# Altium integrated library Lattice CPLD ispMACH.IntLib: 663 symbols (part 35 of 48)
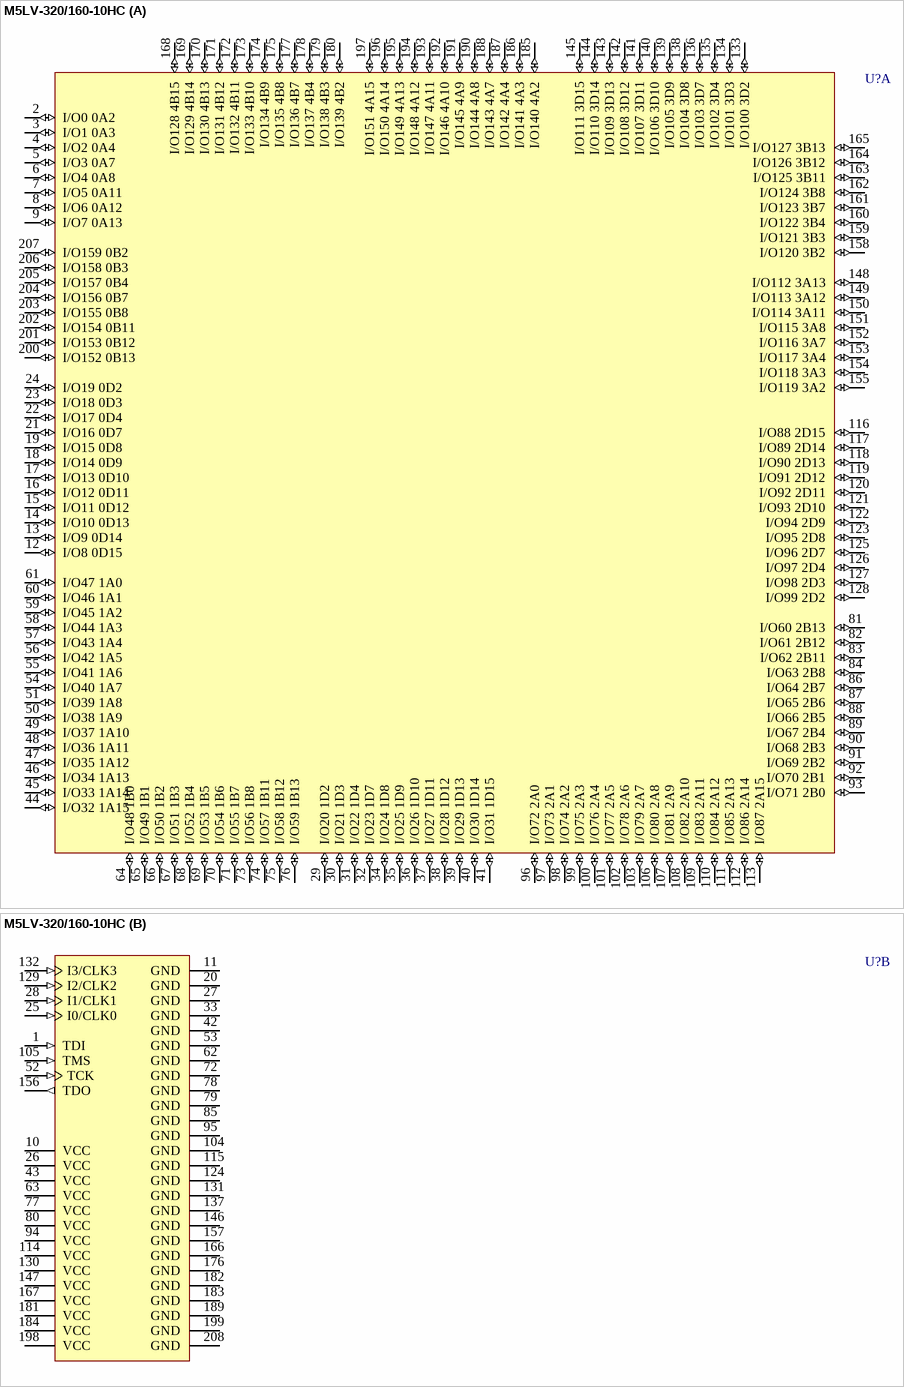
[diagram p340: symbol M5LV-320/160-10HC]

## M5LV-320/160-10HC
designator U?
High-Density and High-I/O Complex PLD; Published: 23-Sep-2002; LatestRevisionDate: 13-Apr-2006; LatestRevisionNote: IPC-7351 Footprint Added.; DatasheetVersion: Sep-2000; PackageVersion: Sep-2000; PackageReference: MQFP208; Publisher: Altium Limited; PackageDescription: 208-Pin Shrink Quad Flat Pack 0.5 mm Pitch; ComponentLink1Description: Manufacturer Link; ComponentLink1URL: http://www.latticesemi.com/products/mature/index.cfm; ComponentLink2Description: Datasheet; ComponentLink2URL: http://www.latticesemi.com/lit/docs/datasheets/cpld/mach5.pdf
footprint MQFP208_N (Shrink QFP, 208-Leads, Body 27.7x27.7mm, Pitch 0.5mm, IPC Medium Density)
footprint MQFP208_L (Shrink QFP, 208-Leads, Body 27.7x27.7mm, Pitch 0.5mm, IPC High Density)
footprint MQFP208_M (Shrink QFP, 208-Leads, Body 27.7x27.7mm, Pitch 0.5mm, IPC Low Density)
3D model M5LV-MQFP208 (208-Pin Shrink Quad Flat Pack 0.5 mm Pitch)
part A pins: 2 I/O0 0A2 (io), 3 I/O1 0A3 (io), 4 I/O2 0A4 (io), 5 I/O3 0A7 (io), 6 I/O4 0A8 (io), 7 I/O5 0A11 (io), 8 I/O6 0A12 (io), 9 I/O7 0A13 (io), 12 I/O8 0D15 (io), 13 I/O9 0D14 (io), 14 I/O10 0D13 (io), 15 I/O11 0D12 (io), 16 I/O12 0D11 (io), 17 I/O13 0D10 (io), 18 I/O14 0D9 (io), 19 I/O15 0D8 (io), 21 I/O16 0D7 (io), 22 I/O17 0D4 (io), 23 I/O18 0D3 (io), 24 I/O19 0D2 (io), 29 I/O20 1D2 (io), 30 I/O21 1D3 (io), 31 I/O22 1D4 (io), 32 I/O23 1D7 (io), 34 I/O24 1D8 (io), 35 I/O25 1D9 (io), 36 I/O26 1D10 (io), 37 I/O27 1D11 (io), 38 I/O28 1D12 (io), 39 I/O29 1D13 (io), 40 I/O30 1D14 (io), 41 I/O31 1D15 (io), 44 I/O32 1A15 (io), 45 I/O33 1A14 (io), 46 I/O34 1A13 (io), 47 I/O35 1A12 (io), 48 I/O36 1A11 (io), 49 I/O37 1A10 (io), 50 I/O38 1A9 (io), 51 I/O39 1A8 (io), 54 I/O40 1A7 (io), 55 I/O41 1A6 (io), 56 I/O42 1A5 (io), 57 I/O43 1A4 (io), 58 I/O44 1A3 (io), 59 I/O45 1A2 (io), 60 I/O46 1A1 (io), 61 I/O47 1A0 (io), 64 I/O48 1B0 (io), 65 I/O49 1B1 (io), 66 I/O50 1B2 (io), 67 I/O51 1B3 (io), 68 I/O52 1B4 (io), 69 I/O53 1B5 (io), 70 I/O54 1B6 (io), 71 I/O55 1B7 (io), 73 I/O56 1B8 (io), 74 I/O57 1B11 (io), 75 I/O58 1B12 (io), 76 I/O59 1B13 (io), 81 I/O60 2B13 (io), 82 I/O61 2B12 (io), 83 I/O62 2B11 (io), 84 I/O63 2B8 (io), 86 I/O64 2B7 (io), 87 I/O65 2B6 (io), 88 I/O66 2B5 (io), 89 I/O67 2B4 (io), 90 I/O68 2B3 (io), 91 I/O69 2B2 (io), 92 I/O70 2B1 (io), 93 I/O71 2B0 (io), 96 I/O72 2A0 (io), 97 I/O73 2A1 (io), 98 I/O74 2A2 (io), 99 I/O75 2A3 (io), 100 I/O76 2A4 (io), 101 I/O77 2A5 (io), 102 I/O78 2A6 (io), 103 I/O79 2A7 (io), 106 I/O80 2A8 (io), 107 I/O81 2A9 (io), 108 I/O82 2A10 (io), 109 I/O83 2A11 (io), 110 I/O84 2A12 (io), 111 I/O85 2A13 (io), 112 I/O86 2A14 (io), 113 I/O87 2A15 (io), 116 I/O88 2D15 (io), 117 I/O89 2D14 (io), 118 I/O90 2D13 (io), 119 I/O91 2D12 (io), 120 I/O92 2D11 (io), 121 I/O93 2D10 (io), 122 I/O94 2D9 (io), 123 I/O95 2D8 (io), 125 I/O96 2D7 (io), 126 I/O97 2D4 (io), 127 I/O98 2D3 (io), 128 I/O99 2D2 (io), 133 I/O100 3D2 (io), 134 I/O101 3D3 (io), 135 I/O102 3D4 (io), 136 I/O103 3D7 (io), 138 I/O104 3D8 (io), 139 I/O105 3D9 (io), 140 I/O106 3D10 (io), 141 I/O107 3D11 (io), 142 I/O108 3D12 (io), 143 I/O109 3D13 (io), 144 I/O110 3D14 (io), 145 I/O111 3D15 (io), 148 I/O112 3A13 (io), 149 I/O113 3A12 (io), 150 I/O114 3A11 (io), 151 I/O115 3A8 (io), 152 I/O116 3A7 (io), 153 I/O117 3A4 (io), 154 I/O118 3A3 (io), 155 I/O119 3A2 (io), 158 I/O120 3B2 (io), 159 I/O121 3B3 (io), 160 I/O122 3B4 (io), 161 I/O123 3B7 (io), 162 I/O124 3B8 (io), 163 I/O125 3B11 (io), 164 I/O126 3B12 (io), 165 I/O127 3B13 (io), 168 I/O128 4B15 (io), 169 I/O129 4B14 (io), 170 I/O130 4B13 (io), 171 I/O131 4B12 (io), 172 I/O132 4B11 (io), 173 I/O133 4B10 (io), 174 I/O134 4B9 (io), 175 I/O135 4B8 (io), 177 I/O136 4B7 (io), 178 I/O137 4B4 (io), 179 I/O138 4B3 (io), 180 I/O139 4B2 (io), 185 I/O140 4A2 (io), 186 I/O141 4A3 (io), 187 I/O142 4A4 (io), 188 I/O143 4A7 (io), 190 I/O144 4A8 (io), 191 I/O145 4A9 (io), 192 I/O146 4A10 (io), 193 I/O147 4A11 (io), 194 I/O148 4A12 (io), 195 I/O149 4A13 (io), 196 I/O150 4A14 (io), 197 I/O151 4A15 (io), 200 I/O152 0B13 (io), 201 I/O153 0B12 (io), 202 I/O154 0B11 (io), 203 I/O155 0B8 (io), 204 I/O156 0B7 (io), 205 I/O157 0B4 (io), 206 I/O158 0B3 (io), 207 I/O159 0B2 (io)
part B pins: 1 TDI (in), 10 VCC (power), 11 GND (power), 20 GND (power), 25 I0/CLK0 (in), 26 VCC (power), 27 GND (power), 28 I1/CLK1 (in), 33 GND (power), 42 GND (power), 43 VCC (power), 52 TCK (in), 53 GND (power), 62 GND (power), 63 VCC (power), 72 GND (power), 77 VCC (power), 78 GND (power), 79 GND (power), 80 VCC (power), 85 GND (power), 94 VCC (power), 95 GND (power), 104 GND (power), 105 TMS (in), 114 VCC (power), 115 GND (power), 124 GND (power), 129 I2/CLK2 (in), 130 VCC (power), 131 GND (power), 132 I3/CLK3 (in), 137 GND (power), 146 GND (power), 147 VCC (power), 156 TDO (out), 157 GND (power), 166 GND (power), 167 VCC (power), 176 GND (power), 181 VCC (power), 182 GND (power), 183 GND (power), 184 VCC (power), 189 GND (power), 198 VCC (power), 199 GND (power), 208 GND (power)

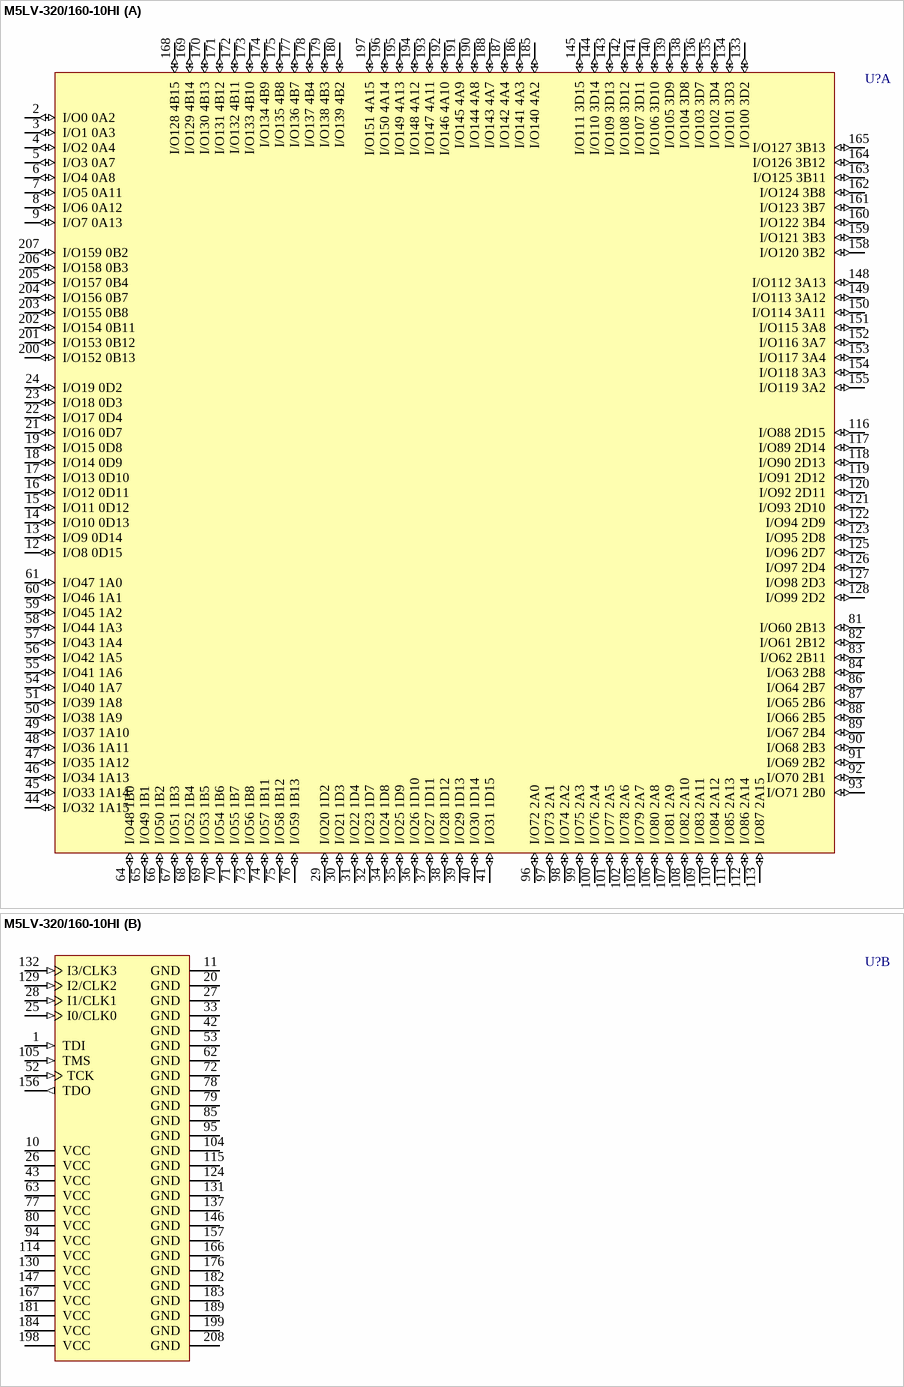
[diagram p207: symbol M5LV-320/160-10HI]

## M5LV-320/160-10HI
designator U?
High-Density and High-I/O Complex PLD; Published: 23-Sep-2002; LatestRevisionDate: 13-Apr-2006; LatestRevisionNote: IPC-7351 Footprint Added.; DatasheetVersion: Sep-2000; PackageVersion: Sep-2000; PackageReference: MQFP208; Publisher: Altium Limited; PackageDescription: 208-Pin Shrink Quad Flat Pack 0.5 mm Pitch; ComponentLink1Description: Manufacturer Link; ComponentLink1URL: http://www.latticesemi.com/products/mature/index.cfm; ComponentLink2Description: Datasheet; ComponentLink2URL: http://www.latticesemi.com/lit/docs/datasheets/cpld/mach5.pdf
footprint MQFP208_N (Shrink QFP, 208-Leads, Body 27.7x27.7mm, Pitch 0.5mm, IPC Medium Density)
footprint MQFP208_L (Shrink QFP, 208-Leads, Body 27.7x27.7mm, Pitch 0.5mm, IPC High Density)
footprint MQFP208_M (Shrink QFP, 208-Leads, Body 27.7x27.7mm, Pitch 0.5mm, IPC Low Density)
3D model M5LV-MQFP208 (208-Pin Shrink Quad Flat Pack 0.5 mm Pitch)
part A pins: 2 I/O0 0A2 (io), 3 I/O1 0A3 (io), 4 I/O2 0A4 (io), 5 I/O3 0A7 (io), 6 I/O4 0A8 (io), 7 I/O5 0A11 (io), 8 I/O6 0A12 (io), 9 I/O7 0A13 (io), 12 I/O8 0D15 (io), 13 I/O9 0D14 (io), 14 I/O10 0D13 (io), 15 I/O11 0D12 (io), 16 I/O12 0D11 (io), 17 I/O13 0D10 (io), 18 I/O14 0D9 (io), 19 I/O15 0D8 (io), 21 I/O16 0D7 (io), 22 I/O17 0D4 (io), 23 I/O18 0D3 (io), 24 I/O19 0D2 (io), 29 I/O20 1D2 (io), 30 I/O21 1D3 (io), 31 I/O22 1D4 (io), 32 I/O23 1D7 (io), 34 I/O24 1D8 (io), 35 I/O25 1D9 (io), 36 I/O26 1D10 (io), 37 I/O27 1D11 (io), 38 I/O28 1D12 (io), 39 I/O29 1D13 (io), 40 I/O30 1D14 (io), 41 I/O31 1D15 (io), 44 I/O32 1A15 (io), 45 I/O33 1A14 (io), 46 I/O34 1A13 (io), 47 I/O35 1A12 (io), 48 I/O36 1A11 (io), 49 I/O37 1A10 (io), 50 I/O38 1A9 (io), 51 I/O39 1A8 (io), 54 I/O40 1A7 (io), 55 I/O41 1A6 (io), 56 I/O42 1A5 (io), 57 I/O43 1A4 (io), 58 I/O44 1A3 (io), 59 I/O45 1A2 (io), 60 I/O46 1A1 (io), 61 I/O47 1A0 (io), 64 I/O48 1B0 (io), 65 I/O49 1B1 (io), 66 I/O50 1B2 (io), 67 I/O51 1B3 (io), 68 I/O52 1B4 (io), 69 I/O53 1B5 (io), 70 I/O54 1B6 (io), 71 I/O55 1B7 (io), 73 I/O56 1B8 (io), 74 I/O57 1B11 (io), 75 I/O58 1B12 (io), 76 I/O59 1B13 (io), 81 I/O60 2B13 (io), 82 I/O61 2B12 (io), 83 I/O62 2B11 (io), 84 I/O63 2B8 (io), 86 I/O64 2B7 (io), 87 I/O65 2B6 (io), 88 I/O66 2B5 (io), 89 I/O67 2B4 (io), 90 I/O68 2B3 (io), 91 I/O69 2B2 (io), 92 I/O70 2B1 (io), 93 I/O71 2B0 (io), 96 I/O72 2A0 (io), 97 I/O73 2A1 (io), 98 I/O74 2A2 (io), 99 I/O75 2A3 (io), 100 I/O76 2A4 (io), 101 I/O77 2A5 (io), 102 I/O78 2A6 (io), 103 I/O79 2A7 (io), 106 I/O80 2A8 (io), 107 I/O81 2A9 (io), 108 I/O82 2A10 (io), 109 I/O83 2A11 (io), 110 I/O84 2A12 (io), 111 I/O85 2A13 (io), 112 I/O86 2A14 (io), 113 I/O87 2A15 (io), 116 I/O88 2D15 (io), 117 I/O89 2D14 (io), 118 I/O90 2D13 (io), 119 I/O91 2D12 (io), 120 I/O92 2D11 (io), 121 I/O93 2D10 (io), 122 I/O94 2D9 (io), 123 I/O95 2D8 (io), 125 I/O96 2D7 (io), 126 I/O97 2D4 (io), 127 I/O98 2D3 (io), 128 I/O99 2D2 (io), 133 I/O100 3D2 (io), 134 I/O101 3D3 (io), 135 I/O102 3D4 (io), 136 I/O103 3D7 (io), 138 I/O104 3D8 (io), 139 I/O105 3D9 (io), 140 I/O106 3D10 (io), 141 I/O107 3D11 (io), 142 I/O108 3D12 (io), 143 I/O109 3D13 (io), 144 I/O110 3D14 (io), 145 I/O111 3D15 (io), 148 I/O112 3A13 (io), 149 I/O113 3A12 (io), 150 I/O114 3A11 (io), 151 I/O115 3A8 (io), 152 I/O116 3A7 (io), 153 I/O117 3A4 (io), 154 I/O118 3A3 (io), 155 I/O119 3A2 (io), 158 I/O120 3B2 (io), 159 I/O121 3B3 (io), 160 I/O122 3B4 (io), 161 I/O123 3B7 (io), 162 I/O124 3B8 (io), 163 I/O125 3B11 (io), 164 I/O126 3B12 (io), 165 I/O127 3B13 (io), 168 I/O128 4B15 (io), 169 I/O129 4B14 (io), 170 I/O130 4B13 (io), 171 I/O131 4B12 (io), 172 I/O132 4B11 (io), 173 I/O133 4B10 (io), 174 I/O134 4B9 (io), 175 I/O135 4B8 (io), 177 I/O136 4B7 (io), 178 I/O137 4B4 (io), 179 I/O138 4B3 (io), 180 I/O139 4B2 (io), 185 I/O140 4A2 (io), 186 I/O141 4A3 (io), 187 I/O142 4A4 (io), 188 I/O143 4A7 (io), 190 I/O144 4A8 (io), 191 I/O145 4A9 (io), 192 I/O146 4A10 (io), 193 I/O147 4A11 (io), 194 I/O148 4A12 (io), 195 I/O149 4A13 (io), 196 I/O150 4A14 (io), 197 I/O151 4A15 (io), 200 I/O152 0B13 (io), 201 I/O153 0B12 (io), 202 I/O154 0B11 (io), 203 I/O155 0B8 (io), 204 I/O156 0B7 (io), 205 I/O157 0B4 (io), 206 I/O158 0B3 (io), 207 I/O159 0B2 (io)
part B pins: 1 TDI (in), 10 VCC (power), 11 GND (power), 20 GND (power), 25 I0/CLK0 (in), 26 VCC (power), 27 GND (power), 28 I1/CLK1 (in), 33 GND (power), 42 GND (power), 43 VCC (power), 52 TCK (in), 53 GND (power), 62 GND (power), 63 VCC (power), 72 GND (power), 77 VCC (power), 78 GND (power), 79 GND (power), 80 VCC (power), 85 GND (power), 94 VCC (power), 95 GND (power), 104 GND (power), 105 TMS (in), 114 VCC (power), 115 GND (power), 124 GND (power), 129 I2/CLK2 (in), 130 VCC (power), 131 GND (power), 132 I3/CLK3 (in), 137 GND (power), 146 GND (power), 147 VCC (power), 156 TDO (out), 157 GND (power), 166 GND (power), 167 VCC (power), 176 GND (power), 181 VCC (power), 182 GND (power), 183 GND (power), 184 VCC (power), 189 GND (power), 198 VCC (power), 199 GND (power), 208 GND (power)

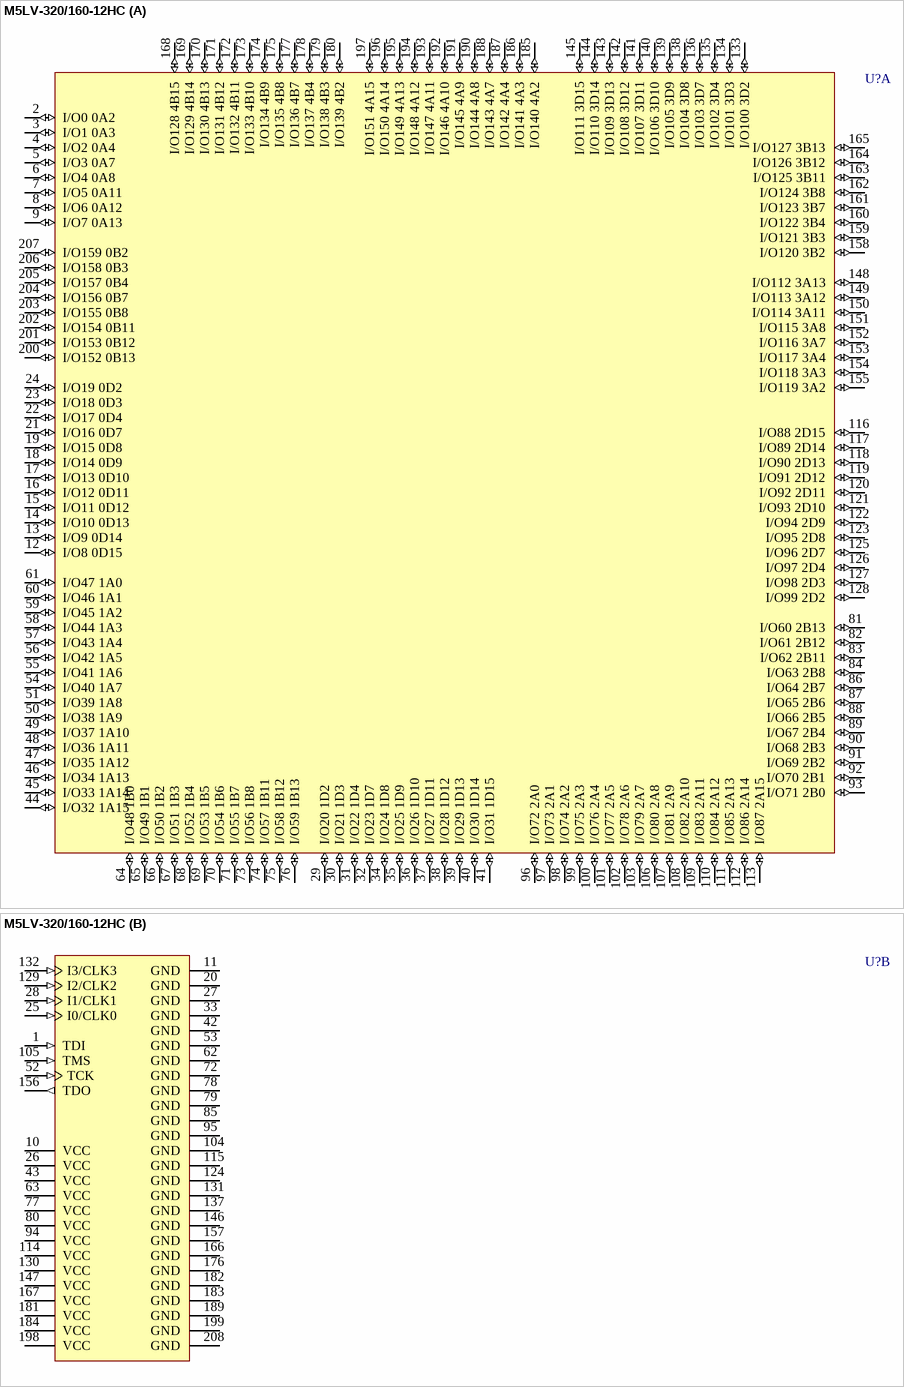
[diagram p208: symbol M5LV-320/160-12HC]

## M5LV-320/160-12HC
designator U?
High-Density and High-I/O Complex PLD; Published: 23-Sep-2002; LatestRevisionDate: 13-Apr-2006; LatestRevisionNote: IPC-7351 Footprint Added.; DatasheetVersion: Sep-2000; PackageVersion: Sep-2000; PackageReference: MQFP208; Publisher: Altium Limited; PackageDescription: 208-Pin Shrink Quad Flat Pack 0.5 mm Pitch; ComponentLink1Description: Manufacturer Link; ComponentLink1URL: http://www.latticesemi.com/products/mature/index.cfm; ComponentLink2Description: Datasheet; ComponentLink2URL: http://www.latticesemi.com/lit/docs/datasheets/cpld/mach5.pdf
footprint MQFP208_N (Shrink QFP, 208-Leads, Body 27.7x27.7mm, Pitch 0.5mm, IPC Medium Density)
footprint MQFP208_L (Shrink QFP, 208-Leads, Body 27.7x27.7mm, Pitch 0.5mm, IPC High Density)
footprint MQFP208_M (Shrink QFP, 208-Leads, Body 27.7x27.7mm, Pitch 0.5mm, IPC Low Density)
3D model M5LV-MQFP208 (208-Pin Shrink Quad Flat Pack 0.5 mm Pitch)
part A pins: 2 I/O0 0A2 (io), 3 I/O1 0A3 (io), 4 I/O2 0A4 (io), 5 I/O3 0A7 (io), 6 I/O4 0A8 (io), 7 I/O5 0A11 (io), 8 I/O6 0A12 (io), 9 I/O7 0A13 (io), 12 I/O8 0D15 (io), 13 I/O9 0D14 (io), 14 I/O10 0D13 (io), 15 I/O11 0D12 (io), 16 I/O12 0D11 (io), 17 I/O13 0D10 (io), 18 I/O14 0D9 (io), 19 I/O15 0D8 (io), 21 I/O16 0D7 (io), 22 I/O17 0D4 (io), 23 I/O18 0D3 (io), 24 I/O19 0D2 (io), 29 I/O20 1D2 (io), 30 I/O21 1D3 (io), 31 I/O22 1D4 (io), 32 I/O23 1D7 (io), 34 I/O24 1D8 (io), 35 I/O25 1D9 (io), 36 I/O26 1D10 (io), 37 I/O27 1D11 (io), 38 I/O28 1D12 (io), 39 I/O29 1D13 (io), 40 I/O30 1D14 (io), 41 I/O31 1D15 (io), 44 I/O32 1A15 (io), 45 I/O33 1A14 (io), 46 I/O34 1A13 (io), 47 I/O35 1A12 (io), 48 I/O36 1A11 (io), 49 I/O37 1A10 (io), 50 I/O38 1A9 (io), 51 I/O39 1A8 (io), 54 I/O40 1A7 (io), 55 I/O41 1A6 (io), 56 I/O42 1A5 (io), 57 I/O43 1A4 (io), 58 I/O44 1A3 (io), 59 I/O45 1A2 (io), 60 I/O46 1A1 (io), 61 I/O47 1A0 (io), 64 I/O48 1B0 (io), 65 I/O49 1B1 (io), 66 I/O50 1B2 (io), 67 I/O51 1B3 (io), 68 I/O52 1B4 (io), 69 I/O53 1B5 (io), 70 I/O54 1B6 (io), 71 I/O55 1B7 (io), 73 I/O56 1B8 (io), 74 I/O57 1B11 (io), 75 I/O58 1B12 (io), 76 I/O59 1B13 (io), 81 I/O60 2B13 (io), 82 I/O61 2B12 (io), 83 I/O62 2B11 (io), 84 I/O63 2B8 (io), 86 I/O64 2B7 (io), 87 I/O65 2B6 (io), 88 I/O66 2B5 (io), 89 I/O67 2B4 (io), 90 I/O68 2B3 (io), 91 I/O69 2B2 (io), 92 I/O70 2B1 (io), 93 I/O71 2B0 (io), 96 I/O72 2A0 (io), 97 I/O73 2A1 (io), 98 I/O74 2A2 (io), 99 I/O75 2A3 (io), 100 I/O76 2A4 (io), 101 I/O77 2A5 (io), 102 I/O78 2A6 (io), 103 I/O79 2A7 (io), 106 I/O80 2A8 (io), 107 I/O81 2A9 (io), 108 I/O82 2A10 (io), 109 I/O83 2A11 (io), 110 I/O84 2A12 (io), 111 I/O85 2A13 (io), 112 I/O86 2A14 (io), 113 I/O87 2A15 (io), 116 I/O88 2D15 (io), 117 I/O89 2D14 (io), 118 I/O90 2D13 (io), 119 I/O91 2D12 (io), 120 I/O92 2D11 (io), 121 I/O93 2D10 (io), 122 I/O94 2D9 (io), 123 I/O95 2D8 (io), 125 I/O96 2D7 (io), 126 I/O97 2D4 (io), 127 I/O98 2D3 (io), 128 I/O99 2D2 (io), 133 I/O100 3D2 (io), 134 I/O101 3D3 (io), 135 I/O102 3D4 (io), 136 I/O103 3D7 (io), 138 I/O104 3D8 (io), 139 I/O105 3D9 (io), 140 I/O106 3D10 (io), 141 I/O107 3D11 (io), 142 I/O108 3D12 (io), 143 I/O109 3D13 (io), 144 I/O110 3D14 (io), 145 I/O111 3D15 (io), 148 I/O112 3A13 (io), 149 I/O113 3A12 (io), 150 I/O114 3A11 (io), 151 I/O115 3A8 (io), 152 I/O116 3A7 (io), 153 I/O117 3A4 (io), 154 I/O118 3A3 (io), 155 I/O119 3A2 (io), 158 I/O120 3B2 (io), 159 I/O121 3B3 (io), 160 I/O122 3B4 (io), 161 I/O123 3B7 (io), 162 I/O124 3B8 (io), 163 I/O125 3B11 (io), 164 I/O126 3B12 (io), 165 I/O127 3B13 (io), 168 I/O128 4B15 (io), 169 I/O129 4B14 (io), 170 I/O130 4B13 (io), 171 I/O131 4B12 (io), 172 I/O132 4B11 (io), 173 I/O133 4B10 (io), 174 I/O134 4B9 (io), 175 I/O135 4B8 (io), 177 I/O136 4B7 (io), 178 I/O137 4B4 (io), 179 I/O138 4B3 (io), 180 I/O139 4B2 (io), 185 I/O140 4A2 (io), 186 I/O141 4A3 (io), 187 I/O142 4A4 (io), 188 I/O143 4A7 (io), 190 I/O144 4A8 (io), 191 I/O145 4A9 (io), 192 I/O146 4A10 (io), 193 I/O147 4A11 (io), 194 I/O148 4A12 (io), 195 I/O149 4A13 (io), 196 I/O150 4A14 (io), 197 I/O151 4A15 (io), 200 I/O152 0B13 (io), 201 I/O153 0B12 (io), 202 I/O154 0B11 (io), 203 I/O155 0B8 (io), 204 I/O156 0B7 (io), 205 I/O157 0B4 (io), 206 I/O158 0B3 (io), 207 I/O159 0B2 (io)
part B pins: 1 TDI (in), 10 VCC (power), 11 GND (power), 20 GND (power), 25 I0/CLK0 (in), 26 VCC (power), 27 GND (power), 28 I1/CLK1 (in), 33 GND (power), 42 GND (power), 43 VCC (power), 52 TCK (in), 53 GND (power), 62 GND (power), 63 VCC (power), 72 GND (power), 77 VCC (power), 78 GND (power), 79 GND (power), 80 VCC (power), 85 GND (power), 94 VCC (power), 95 GND (power), 104 GND (power), 105 TMS (in), 114 VCC (power), 115 GND (power), 124 GND (power), 129 I2/CLK2 (in), 130 VCC (power), 131 GND (power), 132 I3/CLK3 (in), 137 GND (power), 146 GND (power), 147 VCC (power), 156 TDO (out), 157 GND (power), 166 GND (power), 167 VCC (power), 176 GND (power), 181 VCC (power), 182 GND (power), 183 GND (power), 184 VCC (power), 189 GND (power), 198 VCC (power), 199 GND (power), 208 GND (power)

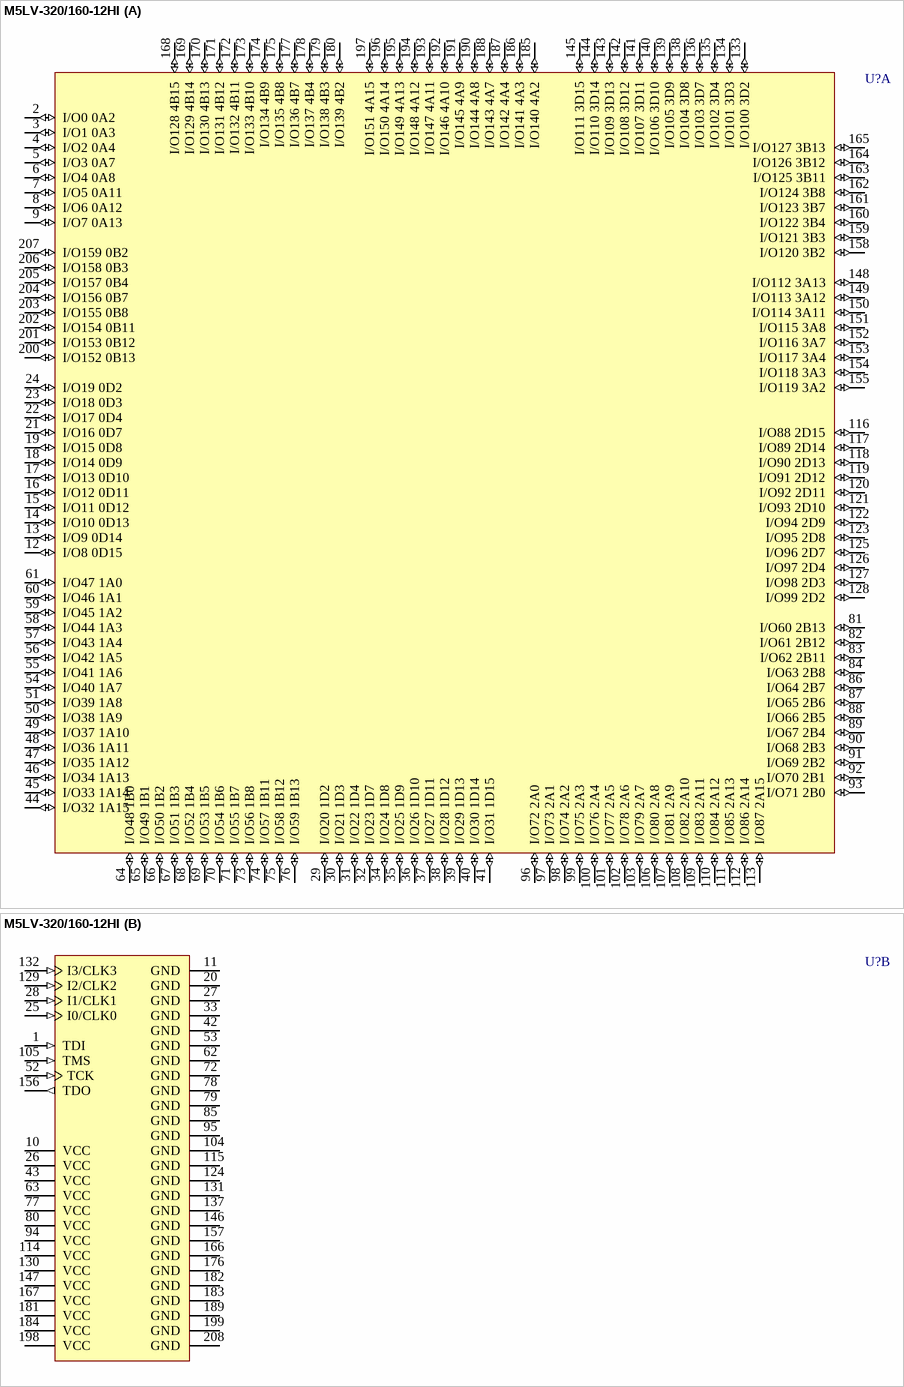
[diagram p209: symbol M5LV-320/160-12HI]

## M5LV-320/160-12HI
designator U?
High-Density and High-I/O Complex PLD; Published: 23-Sep-2002; LatestRevisionDate: 13-Apr-2006; LatestRevisionNote: IPC-7351 Footprint Added.; DatasheetVersion: Sep-2000; PackageVersion: Sep-2000; PackageReference: MQFP208; Publisher: Altium Limited; PackageDescription: 208-Pin Shrink Quad Flat Pack 0.5 mm Pitch; ComponentLink1Description: Manufacturer Link; ComponentLink1URL: http://www.latticesemi.com/products/mature/index.cfm; ComponentLink2Description: Datasheet; ComponentLink2URL: http://www.latticesemi.com/lit/docs/datasheets/cpld/mach5.pdf
footprint MQFP208_N (Shrink QFP, 208-Leads, Body 27.7x27.7mm, Pitch 0.5mm, IPC Medium Density)
footprint MQFP208_L (Shrink QFP, 208-Leads, Body 27.7x27.7mm, Pitch 0.5mm, IPC High Density)
footprint MQFP208_M (Shrink QFP, 208-Leads, Body 27.7x27.7mm, Pitch 0.5mm, IPC Low Density)
3D model M5LV-MQFP208 (208-Pin Shrink Quad Flat Pack 0.5 mm Pitch)
part A pins: 2 I/O0 0A2 (io), 3 I/O1 0A3 (io), 4 I/O2 0A4 (io), 5 I/O3 0A7 (io), 6 I/O4 0A8 (io), 7 I/O5 0A11 (io), 8 I/O6 0A12 (io), 9 I/O7 0A13 (io), 12 I/O8 0D15 (io), 13 I/O9 0D14 (io), 14 I/O10 0D13 (io), 15 I/O11 0D12 (io), 16 I/O12 0D11 (io), 17 I/O13 0D10 (io), 18 I/O14 0D9 (io), 19 I/O15 0D8 (io), 21 I/O16 0D7 (io), 22 I/O17 0D4 (io), 23 I/O18 0D3 (io), 24 I/O19 0D2 (io), 29 I/O20 1D2 (io), 30 I/O21 1D3 (io), 31 I/O22 1D4 (io), 32 I/O23 1D7 (io), 34 I/O24 1D8 (io), 35 I/O25 1D9 (io), 36 I/O26 1D10 (io), 37 I/O27 1D11 (io), 38 I/O28 1D12 (io), 39 I/O29 1D13 (io), 40 I/O30 1D14 (io), 41 I/O31 1D15 (io), 44 I/O32 1A15 (io), 45 I/O33 1A14 (io), 46 I/O34 1A13 (io), 47 I/O35 1A12 (io), 48 I/O36 1A11 (io), 49 I/O37 1A10 (io), 50 I/O38 1A9 (io), 51 I/O39 1A8 (io), 54 I/O40 1A7 (io), 55 I/O41 1A6 (io), 56 I/O42 1A5 (io), 57 I/O43 1A4 (io), 58 I/O44 1A3 (io), 59 I/O45 1A2 (io), 60 I/O46 1A1 (io), 61 I/O47 1A0 (io), 64 I/O48 1B0 (io), 65 I/O49 1B1 (io), 66 I/O50 1B2 (io), 67 I/O51 1B3 (io), 68 I/O52 1B4 (io), 69 I/O53 1B5 (io), 70 I/O54 1B6 (io), 71 I/O55 1B7 (io), 73 I/O56 1B8 (io), 74 I/O57 1B11 (io), 75 I/O58 1B12 (io), 76 I/O59 1B13 (io), 81 I/O60 2B13 (io), 82 I/O61 2B12 (io), 83 I/O62 2B11 (io), 84 I/O63 2B8 (io), 86 I/O64 2B7 (io), 87 I/O65 2B6 (io), 88 I/O66 2B5 (io), 89 I/O67 2B4 (io), 90 I/O68 2B3 (io), 91 I/O69 2B2 (io), 92 I/O70 2B1 (io), 93 I/O71 2B0 (io), 96 I/O72 2A0 (io), 97 I/O73 2A1 (io), 98 I/O74 2A2 (io), 99 I/O75 2A3 (io), 100 I/O76 2A4 (io), 101 I/O77 2A5 (io), 102 I/O78 2A6 (io), 103 I/O79 2A7 (io), 106 I/O80 2A8 (io), 107 I/O81 2A9 (io), 108 I/O82 2A10 (io), 109 I/O83 2A11 (io), 110 I/O84 2A12 (io), 111 I/O85 2A13 (io), 112 I/O86 2A14 (io), 113 I/O87 2A15 (io), 116 I/O88 2D15 (io), 117 I/O89 2D14 (io), 118 I/O90 2D13 (io), 119 I/O91 2D12 (io), 120 I/O92 2D11 (io), 121 I/O93 2D10 (io), 122 I/O94 2D9 (io), 123 I/O95 2D8 (io), 125 I/O96 2D7 (io), 126 I/O97 2D4 (io), 127 I/O98 2D3 (io), 128 I/O99 2D2 (io), 133 I/O100 3D2 (io), 134 I/O101 3D3 (io), 135 I/O102 3D4 (io), 136 I/O103 3D7 (io), 138 I/O104 3D8 (io), 139 I/O105 3D9 (io), 140 I/O106 3D10 (io), 141 I/O107 3D11 (io), 142 I/O108 3D12 (io), 143 I/O109 3D13 (io), 144 I/O110 3D14 (io), 145 I/O111 3D15 (io), 148 I/O112 3A13 (io), 149 I/O113 3A12 (io), 150 I/O114 3A11 (io), 151 I/O115 3A8 (io), 152 I/O116 3A7 (io), 153 I/O117 3A4 (io), 154 I/O118 3A3 (io), 155 I/O119 3A2 (io), 158 I/O120 3B2 (io), 159 I/O121 3B3 (io), 160 I/O122 3B4 (io), 161 I/O123 3B7 (io), 162 I/O124 3B8 (io), 163 I/O125 3B11 (io), 164 I/O126 3B12 (io), 165 I/O127 3B13 (io), 168 I/O128 4B15 (io), 169 I/O129 4B14 (io), 170 I/O130 4B13 (io), 171 I/O131 4B12 (io), 172 I/O132 4B11 (io), 173 I/O133 4B10 (io), 174 I/O134 4B9 (io), 175 I/O135 4B8 (io), 177 I/O136 4B7 (io), 178 I/O137 4B4 (io), 179 I/O138 4B3 (io), 180 I/O139 4B2 (io), 185 I/O140 4A2 (io), 186 I/O141 4A3 (io), 187 I/O142 4A4 (io), 188 I/O143 4A7 (io), 190 I/O144 4A8 (io), 191 I/O145 4A9 (io), 192 I/O146 4A10 (io), 193 I/O147 4A11 (io), 194 I/O148 4A12 (io), 195 I/O149 4A13 (io), 196 I/O150 4A14 (io), 197 I/O151 4A15 (io), 200 I/O152 0B13 (io), 201 I/O153 0B12 (io), 202 I/O154 0B11 (io), 203 I/O155 0B8 (io), 204 I/O156 0B7 (io), 205 I/O157 0B4 (io), 206 I/O158 0B3 (io), 207 I/O159 0B2 (io)
part B pins: 1 TDI (in), 10 VCC (power), 11 GND (power), 20 GND (power), 25 I0/CLK0 (in), 26 VCC (power), 27 GND (power), 28 I1/CLK1 (in), 33 GND (power), 42 GND (power), 43 VCC (power), 52 TCK (in), 53 GND (power), 62 GND (power), 63 VCC (power), 72 GND (power), 77 VCC (power), 78 GND (power), 79 GND (power), 80 VCC (power), 85 GND (power), 94 VCC (power), 95 GND (power), 104 GND (power), 105 TMS (in), 114 VCC (power), 115 GND (power), 124 GND (power), 129 I2/CLK2 (in), 130 VCC (power), 131 GND (power), 132 I3/CLK3 (in), 137 GND (power), 146 GND (power), 147 VCC (power), 156 TDO (out), 157 GND (power), 166 GND (power), 167 VCC (power), 176 GND (power), 181 VCC (power), 182 GND (power), 183 GND (power), 184 VCC (power), 189 GND (power), 198 VCC (power), 199 GND (power), 208 GND (power)

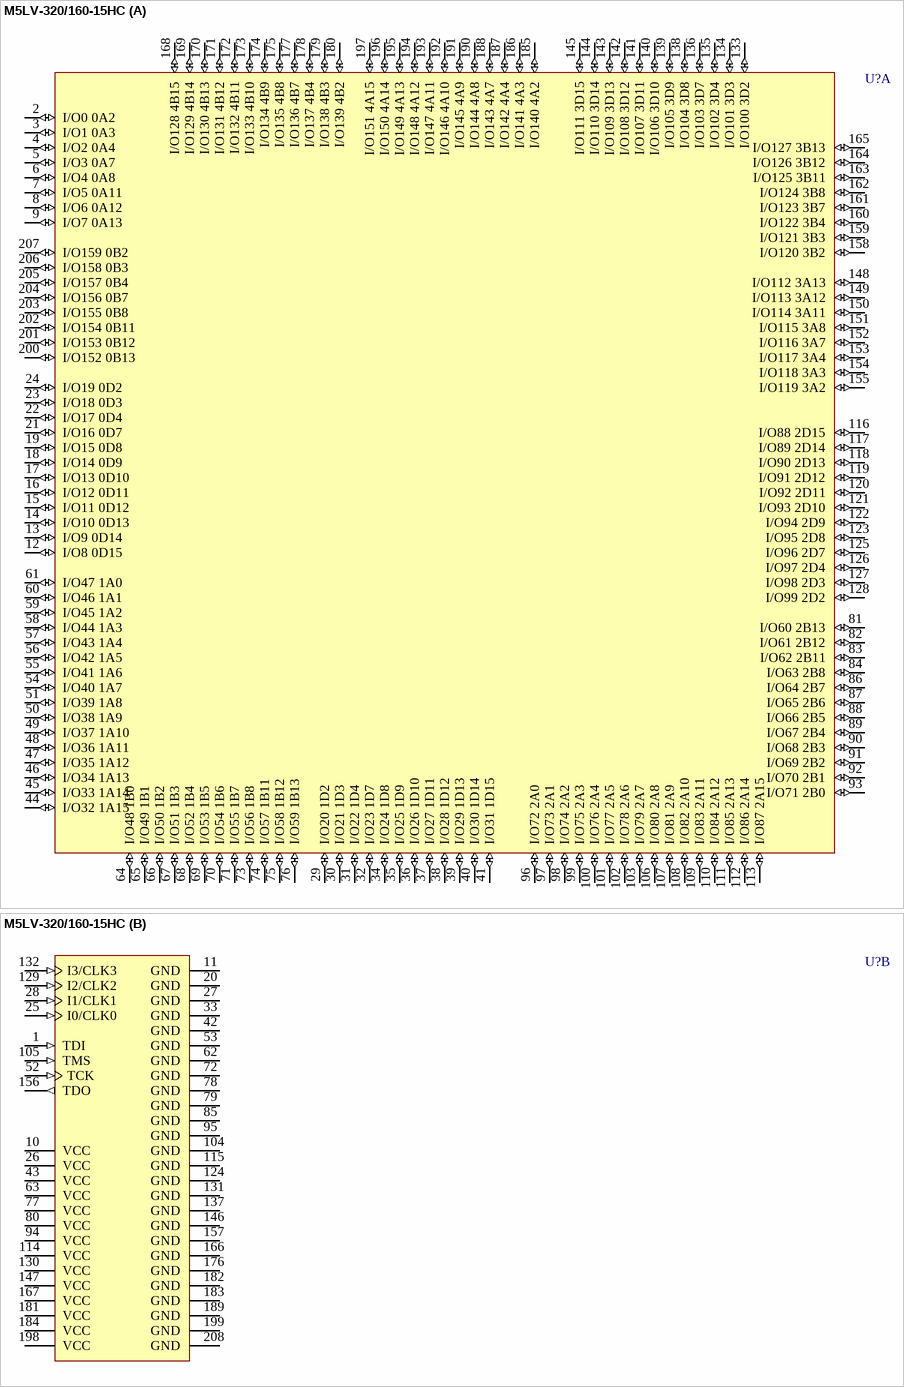
[diagram p210: symbol M5LV-320/160-15HC]

## M5LV-320/160-15HC
designator U?
High-Density and High-I/O Complex PLD; Published: 23-Sep-2002; LatestRevisionDate: 13-Apr-2006; LatestRevisionNote: IPC-7351 Footprint Added.; DatasheetVersion: Sep-2000; PackageVersion: Sep-2000; PackageReference: MQFP208; Publisher: Altium Limited; PackageDescription: 208-Pin Shrink Quad Flat Pack 0.5 mm Pitch; ComponentLink1Description: Manufacturer Link; ComponentLink1URL: http://www.latticesemi.com/products/mature/index.cfm; ComponentLink2Description: Datasheet; ComponentLink2URL: http://www.latticesemi.com/lit/docs/datasheets/cpld/mach5.pdf
footprint MQFP208_N (Shrink QFP, 208-Leads, Body 27.7x27.7mm, Pitch 0.5mm, IPC Medium Density)
footprint MQFP208_L (Shrink QFP, 208-Leads, Body 27.7x27.7mm, Pitch 0.5mm, IPC High Density)
footprint MQFP208_M (Shrink QFP, 208-Leads, Body 27.7x27.7mm, Pitch 0.5mm, IPC Low Density)
3D model M5LV-MQFP208 (208-Pin Shrink Quad Flat Pack 0.5 mm Pitch)
part A pins: 2 I/O0 0A2 (io), 3 I/O1 0A3 (io), 4 I/O2 0A4 (io), 5 I/O3 0A7 (io), 6 I/O4 0A8 (io), 7 I/O5 0A11 (io), 8 I/O6 0A12 (io), 9 I/O7 0A13 (io), 12 I/O8 0D15 (io), 13 I/O9 0D14 (io), 14 I/O10 0D13 (io), 15 I/O11 0D12 (io), 16 I/O12 0D11 (io), 17 I/O13 0D10 (io), 18 I/O14 0D9 (io), 19 I/O15 0D8 (io), 21 I/O16 0D7 (io), 22 I/O17 0D4 (io), 23 I/O18 0D3 (io), 24 I/O19 0D2 (io), 29 I/O20 1D2 (io), 30 I/O21 1D3 (io), 31 I/O22 1D4 (io), 32 I/O23 1D7 (io), 34 I/O24 1D8 (io), 35 I/O25 1D9 (io), 36 I/O26 1D10 (io), 37 I/O27 1D11 (io), 38 I/O28 1D12 (io), 39 I/O29 1D13 (io), 40 I/O30 1D14 (io), 41 I/O31 1D15 (io), 44 I/O32 1A15 (io), 45 I/O33 1A14 (io), 46 I/O34 1A13 (io), 47 I/O35 1A12 (io), 48 I/O36 1A11 (io), 49 I/O37 1A10 (io), 50 I/O38 1A9 (io), 51 I/O39 1A8 (io), 54 I/O40 1A7 (io), 55 I/O41 1A6 (io), 56 I/O42 1A5 (io), 57 I/O43 1A4 (io), 58 I/O44 1A3 (io), 59 I/O45 1A2 (io), 60 I/O46 1A1 (io), 61 I/O47 1A0 (io), 64 I/O48 1B0 (io), 65 I/O49 1B1 (io), 66 I/O50 1B2 (io), 67 I/O51 1B3 (io), 68 I/O52 1B4 (io), 69 I/O53 1B5 (io), 70 I/O54 1B6 (io), 71 I/O55 1B7 (io), 73 I/O56 1B8 (io), 74 I/O57 1B11 (io), 75 I/O58 1B12 (io), 76 I/O59 1B13 (io), 81 I/O60 2B13 (io), 82 I/O61 2B12 (io), 83 I/O62 2B11 (io), 84 I/O63 2B8 (io), 86 I/O64 2B7 (io), 87 I/O65 2B6 (io), 88 I/O66 2B5 (io), 89 I/O67 2B4 (io), 90 I/O68 2B3 (io), 91 I/O69 2B2 (io), 92 I/O70 2B1 (io), 93 I/O71 2B0 (io), 96 I/O72 2A0 (io), 97 I/O73 2A1 (io), 98 I/O74 2A2 (io), 99 I/O75 2A3 (io), 100 I/O76 2A4 (io), 101 I/O77 2A5 (io), 102 I/O78 2A6 (io), 103 I/O79 2A7 (io), 106 I/O80 2A8 (io), 107 I/O81 2A9 (io), 108 I/O82 2A10 (io), 109 I/O83 2A11 (io), 110 I/O84 2A12 (io), 111 I/O85 2A13 (io), 112 I/O86 2A14 (io), 113 I/O87 2A15 (io), 116 I/O88 2D15 (io), 117 I/O89 2D14 (io), 118 I/O90 2D13 (io), 119 I/O91 2D12 (io), 120 I/O92 2D11 (io), 121 I/O93 2D10 (io), 122 I/O94 2D9 (io), 123 I/O95 2D8 (io), 125 I/O96 2D7 (io), 126 I/O97 2D4 (io), 127 I/O98 2D3 (io), 128 I/O99 2D2 (io), 133 I/O100 3D2 (io), 134 I/O101 3D3 (io), 135 I/O102 3D4 (io), 136 I/O103 3D7 (io), 138 I/O104 3D8 (io), 139 I/O105 3D9 (io), 140 I/O106 3D10 (io), 141 I/O107 3D11 (io), 142 I/O108 3D12 (io), 143 I/O109 3D13 (io), 144 I/O110 3D14 (io), 145 I/O111 3D15 (io), 148 I/O112 3A13 (io), 149 I/O113 3A12 (io), 150 I/O114 3A11 (io), 151 I/O115 3A8 (io), 152 I/O116 3A7 (io), 153 I/O117 3A4 (io), 154 I/O118 3A3 (io), 155 I/O119 3A2 (io), 158 I/O120 3B2 (io), 159 I/O121 3B3 (io), 160 I/O122 3B4 (io), 161 I/O123 3B7 (io), 162 I/O124 3B8 (io), 163 I/O125 3B11 (io), 164 I/O126 3B12 (io), 165 I/O127 3B13 (io), 168 I/O128 4B15 (io), 169 I/O129 4B14 (io), 170 I/O130 4B13 (io), 171 I/O131 4B12 (io), 172 I/O132 4B11 (io), 173 I/O133 4B10 (io), 174 I/O134 4B9 (io), 175 I/O135 4B8 (io), 177 I/O136 4B7 (io), 178 I/O137 4B4 (io), 179 I/O138 4B3 (io), 180 I/O139 4B2 (io), 185 I/O140 4A2 (io), 186 I/O141 4A3 (io), 187 I/O142 4A4 (io), 188 I/O143 4A7 (io), 190 I/O144 4A8 (io), 191 I/O145 4A9 (io), 192 I/O146 4A10 (io), 193 I/O147 4A11 (io), 194 I/O148 4A12 (io), 195 I/O149 4A13 (io), 196 I/O150 4A14 (io), 197 I/O151 4A15 (io), 200 I/O152 0B13 (io), 201 I/O153 0B12 (io), 202 I/O154 0B11 (io), 203 I/O155 0B8 (io), 204 I/O156 0B7 (io), 205 I/O157 0B4 (io), 206 I/O158 0B3 (io), 207 I/O159 0B2 (io)
part B pins: 1 TDI (in), 10 VCC (power), 11 GND (power), 20 GND (power), 25 I0/CLK0 (in), 26 VCC (power), 27 GND (power), 28 I1/CLK1 (in), 33 GND (power), 42 GND (power), 43 VCC (power), 52 TCK (in), 53 GND (power), 62 GND (power), 63 VCC (power), 72 GND (power), 77 VCC (power), 78 GND (power), 79 GND (power), 80 VCC (power), 85 GND (power), 94 VCC (power), 95 GND (power), 104 GND (power), 105 TMS (in), 114 VCC (power), 115 GND (power), 124 GND (power), 129 I2/CLK2 (in), 130 VCC (power), 131 GND (power), 132 I3/CLK3 (in), 137 GND (power), 146 GND (power), 147 VCC (power), 156 TDO (out), 157 GND (power), 166 GND (power), 167 VCC (power), 176 GND (power), 181 VCC (power), 182 GND (power), 183 GND (power), 184 VCC (power), 189 GND (power), 198 VCC (power), 199 GND (power), 208 GND (power)

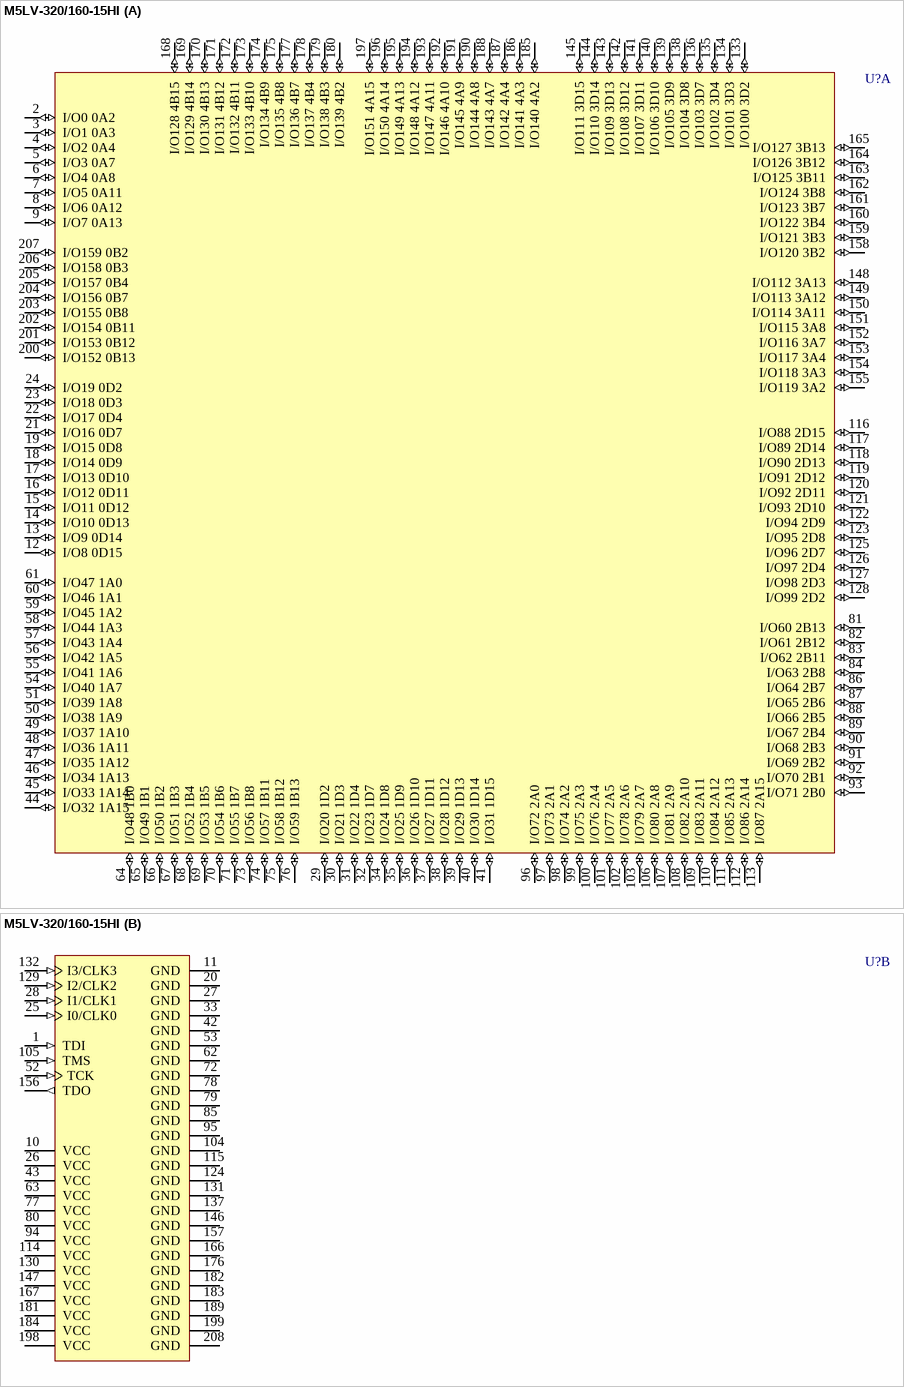
[diagram p211: symbol M5LV-320/160-15HI]

## M5LV-320/160-15HI
designator U?
High-Density and High-I/O Complex PLD; Published: 23-Sep-2002; LatestRevisionDate: 13-Apr-2006; LatestRevisionNote: IPC-7351 Footprint Added.; DatasheetVersion: Sep-2000; PackageVersion: Sep-2000; PackageReference: MQFP208; Publisher: Altium Limited; PackageDescription: 208-Pin Shrink Quad Flat Pack 0.5 mm Pitch; ComponentLink1Description: Manufacturer Link; ComponentLink1URL: http://www.latticesemi.com/products/mature/index.cfm; ComponentLink2Description: Datasheet; ComponentLink2URL: http://www.latticesemi.com/lit/docs/datasheets/cpld/mach5.pdf
footprint MQFP208_N (Shrink QFP, 208-Leads, Body 27.7x27.7mm, Pitch 0.5mm, IPC Medium Density)
footprint MQFP208_L (Shrink QFP, 208-Leads, Body 27.7x27.7mm, Pitch 0.5mm, IPC High Density)
footprint MQFP208_M (Shrink QFP, 208-Leads, Body 27.7x27.7mm, Pitch 0.5mm, IPC Low Density)
3D model M5LV-MQFP208 (208-Pin Shrink Quad Flat Pack 0.5 mm Pitch)
part A pins: 2 I/O0 0A2 (io), 3 I/O1 0A3 (io), 4 I/O2 0A4 (io), 5 I/O3 0A7 (io), 6 I/O4 0A8 (io), 7 I/O5 0A11 (io), 8 I/O6 0A12 (io), 9 I/O7 0A13 (io), 12 I/O8 0D15 (io), 13 I/O9 0D14 (io), 14 I/O10 0D13 (io), 15 I/O11 0D12 (io), 16 I/O12 0D11 (io), 17 I/O13 0D10 (io), 18 I/O14 0D9 (io), 19 I/O15 0D8 (io), 21 I/O16 0D7 (io), 22 I/O17 0D4 (io), 23 I/O18 0D3 (io), 24 I/O19 0D2 (io), 29 I/O20 1D2 (io), 30 I/O21 1D3 (io), 31 I/O22 1D4 (io), 32 I/O23 1D7 (io), 34 I/O24 1D8 (io), 35 I/O25 1D9 (io), 36 I/O26 1D10 (io), 37 I/O27 1D11 (io), 38 I/O28 1D12 (io), 39 I/O29 1D13 (io), 40 I/O30 1D14 (io), 41 I/O31 1D15 (io), 44 I/O32 1A15 (io), 45 I/O33 1A14 (io), 46 I/O34 1A13 (io), 47 I/O35 1A12 (io), 48 I/O36 1A11 (io), 49 I/O37 1A10 (io), 50 I/O38 1A9 (io), 51 I/O39 1A8 (io), 54 I/O40 1A7 (io), 55 I/O41 1A6 (io), 56 I/O42 1A5 (io), 57 I/O43 1A4 (io), 58 I/O44 1A3 (io), 59 I/O45 1A2 (io), 60 I/O46 1A1 (io), 61 I/O47 1A0 (io), 64 I/O48 1B0 (io), 65 I/O49 1B1 (io), 66 I/O50 1B2 (io), 67 I/O51 1B3 (io), 68 I/O52 1B4 (io), 69 I/O53 1B5 (io), 70 I/O54 1B6 (io), 71 I/O55 1B7 (io), 73 I/O56 1B8 (io), 74 I/O57 1B11 (io), 75 I/O58 1B12 (io), 76 I/O59 1B13 (io), 81 I/O60 2B13 (io), 82 I/O61 2B12 (io), 83 I/O62 2B11 (io), 84 I/O63 2B8 (io), 86 I/O64 2B7 (io), 87 I/O65 2B6 (io), 88 I/O66 2B5 (io), 89 I/O67 2B4 (io), 90 I/O68 2B3 (io), 91 I/O69 2B2 (io), 92 I/O70 2B1 (io), 93 I/O71 2B0 (io), 96 I/O72 2A0 (io), 97 I/O73 2A1 (io), 98 I/O74 2A2 (io), 99 I/O75 2A3 (io), 100 I/O76 2A4 (io), 101 I/O77 2A5 (io), 102 I/O78 2A6 (io), 103 I/O79 2A7 (io), 106 I/O80 2A8 (io), 107 I/O81 2A9 (io), 108 I/O82 2A10 (io), 109 I/O83 2A11 (io), 110 I/O84 2A12 (io), 111 I/O85 2A13 (io), 112 I/O86 2A14 (io), 113 I/O87 2A15 (io), 116 I/O88 2D15 (io), 117 I/O89 2D14 (io), 118 I/O90 2D13 (io), 119 I/O91 2D12 (io), 120 I/O92 2D11 (io), 121 I/O93 2D10 (io), 122 I/O94 2D9 (io), 123 I/O95 2D8 (io), 125 I/O96 2D7 (io), 126 I/O97 2D4 (io), 127 I/O98 2D3 (io), 128 I/O99 2D2 (io), 133 I/O100 3D2 (io), 134 I/O101 3D3 (io), 135 I/O102 3D4 (io), 136 I/O103 3D7 (io), 138 I/O104 3D8 (io), 139 I/O105 3D9 (io), 140 I/O106 3D10 (io), 141 I/O107 3D11 (io), 142 I/O108 3D12 (io), 143 I/O109 3D13 (io), 144 I/O110 3D14 (io), 145 I/O111 3D15 (io), 148 I/O112 3A13 (io), 149 I/O113 3A12 (io), 150 I/O114 3A11 (io), 151 I/O115 3A8 (io), 152 I/O116 3A7 (io), 153 I/O117 3A4 (io), 154 I/O118 3A3 (io), 155 I/O119 3A2 (io), 158 I/O120 3B2 (io), 159 I/O121 3B3 (io), 160 I/O122 3B4 (io), 161 I/O123 3B7 (io), 162 I/O124 3B8 (io), 163 I/O125 3B11 (io), 164 I/O126 3B12 (io), 165 I/O127 3B13 (io), 168 I/O128 4B15 (io), 169 I/O129 4B14 (io), 170 I/O130 4B13 (io), 171 I/O131 4B12 (io), 172 I/O132 4B11 (io), 173 I/O133 4B10 (io), 174 I/O134 4B9 (io), 175 I/O135 4B8 (io), 177 I/O136 4B7 (io), 178 I/O137 4B4 (io), 179 I/O138 4B3 (io), 180 I/O139 4B2 (io), 185 I/O140 4A2 (io), 186 I/O141 4A3 (io), 187 I/O142 4A4 (io), 188 I/O143 4A7 (io), 190 I/O144 4A8 (io), 191 I/O145 4A9 (io), 192 I/O146 4A10 (io), 193 I/O147 4A11 (io), 194 I/O148 4A12 (io), 195 I/O149 4A13 (io), 196 I/O150 4A14 (io), 197 I/O151 4A15 (io), 200 I/O152 0B13 (io), 201 I/O153 0B12 (io), 202 I/O154 0B11 (io), 203 I/O155 0B8 (io), 204 I/O156 0B7 (io), 205 I/O157 0B4 (io), 206 I/O158 0B3 (io), 207 I/O159 0B2 (io)
part B pins: 1 TDI (in), 10 VCC (power), 11 GND (power), 20 GND (power), 25 I0/CLK0 (in), 26 VCC (power), 27 GND (power), 28 I1/CLK1 (in), 33 GND (power), 42 GND (power), 43 VCC (power), 52 TCK (in), 53 GND (power), 62 GND (power), 63 VCC (power), 72 GND (power), 77 VCC (power), 78 GND (power), 79 GND (power), 80 VCC (power), 85 GND (power), 94 VCC (power), 95 GND (power), 104 GND (power), 105 TMS (in), 114 VCC (power), 115 GND (power), 124 GND (power), 129 I2/CLK2 (in), 130 VCC (power), 131 GND (power), 132 I3/CLK3 (in), 137 GND (power), 146 GND (power), 147 VCC (power), 156 TDO (out), 157 GND (power), 166 GND (power), 167 VCC (power), 176 GND (power), 181 VCC (power), 182 GND (power), 183 GND (power), 184 VCC (power), 189 GND (power), 198 VCC (power), 199 GND (power), 208 GND (power)

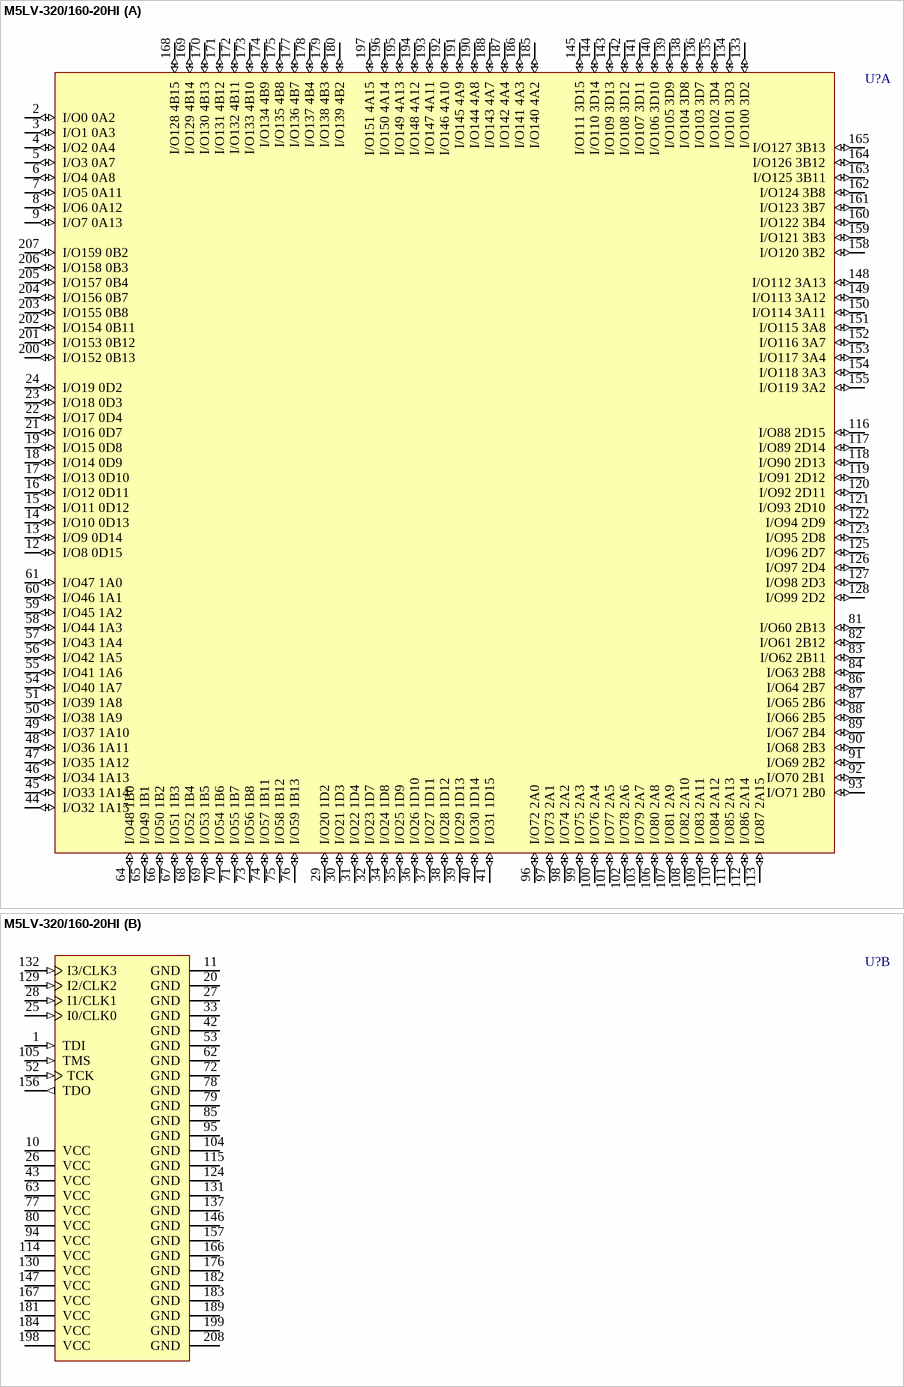
[diagram p212: symbol M5LV-320/160-20HI]

## M5LV-320/160-20HI
designator U?
High-Density and High-I/O Complex PLD; Published: 23-Sep-2002; LatestRevisionDate: 13-Apr-2006; LatestRevisionNote: IPC-7351 Footprint Added.; DatasheetVersion: Sep-2000; PackageVersion: Sep-2000; PackageReference: MQFP208; Publisher: Altium Limited; PackageDescription: 208-Pin Shrink Quad Flat Pack 0.5 mm Pitch; ComponentLink1Description: Manufacturer Link; ComponentLink1URL: http://www.latticesemi.com/products/mature/index.cfm; ComponentLink2Description: Datasheet; ComponentLink2URL: http://www.latticesemi.com/lit/docs/datasheets/cpld/mach5.pdf
footprint MQFP208_N (Shrink QFP, 208-Leads, Body 27.7x27.7mm, Pitch 0.5mm, IPC Medium Density)
footprint MQFP208_L (Shrink QFP, 208-Leads, Body 27.7x27.7mm, Pitch 0.5mm, IPC High Density)
footprint MQFP208_M (Shrink QFP, 208-Leads, Body 27.7x27.7mm, Pitch 0.5mm, IPC Low Density)
3D model M5LV-MQFP208 (208-Pin Shrink Quad Flat Pack 0.5 mm Pitch)
part A pins: 2 I/O0 0A2 (io), 3 I/O1 0A3 (io), 4 I/O2 0A4 (io), 5 I/O3 0A7 (io), 6 I/O4 0A8 (io), 7 I/O5 0A11 (io), 8 I/O6 0A12 (io), 9 I/O7 0A13 (io), 12 I/O8 0D15 (io), 13 I/O9 0D14 (io), 14 I/O10 0D13 (io), 15 I/O11 0D12 (io), 16 I/O12 0D11 (io), 17 I/O13 0D10 (io), 18 I/O14 0D9 (io), 19 I/O15 0D8 (io), 21 I/O16 0D7 (io), 22 I/O17 0D4 (io), 23 I/O18 0D3 (io), 24 I/O19 0D2 (io), 29 I/O20 1D2 (io), 30 I/O21 1D3 (io), 31 I/O22 1D4 (io), 32 I/O23 1D7 (io), 34 I/O24 1D8 (io), 35 I/O25 1D9 (io), 36 I/O26 1D10 (io), 37 I/O27 1D11 (io), 38 I/O28 1D12 (io), 39 I/O29 1D13 (io), 40 I/O30 1D14 (io), 41 I/O31 1D15 (io), 44 I/O32 1A15 (io), 45 I/O33 1A14 (io), 46 I/O34 1A13 (io), 47 I/O35 1A12 (io), 48 I/O36 1A11 (io), 49 I/O37 1A10 (io), 50 I/O38 1A9 (io), 51 I/O39 1A8 (io), 54 I/O40 1A7 (io), 55 I/O41 1A6 (io), 56 I/O42 1A5 (io), 57 I/O43 1A4 (io), 58 I/O44 1A3 (io), 59 I/O45 1A2 (io), 60 I/O46 1A1 (io), 61 I/O47 1A0 (io), 64 I/O48 1B0 (io), 65 I/O49 1B1 (io), 66 I/O50 1B2 (io), 67 I/O51 1B3 (io), 68 I/O52 1B4 (io), 69 I/O53 1B5 (io), 70 I/O54 1B6 (io), 71 I/O55 1B7 (io), 73 I/O56 1B8 (io), 74 I/O57 1B11 (io), 75 I/O58 1B12 (io), 76 I/O59 1B13 (io), 81 I/O60 2B13 (io), 82 I/O61 2B12 (io), 83 I/O62 2B11 (io), 84 I/O63 2B8 (io), 86 I/O64 2B7 (io), 87 I/O65 2B6 (io), 88 I/O66 2B5 (io), 89 I/O67 2B4 (io), 90 I/O68 2B3 (io), 91 I/O69 2B2 (io), 92 I/O70 2B1 (io), 93 I/O71 2B0 (io), 96 I/O72 2A0 (io), 97 I/O73 2A1 (io), 98 I/O74 2A2 (io), 99 I/O75 2A3 (io), 100 I/O76 2A4 (io), 101 I/O77 2A5 (io), 102 I/O78 2A6 (io), 103 I/O79 2A7 (io), 106 I/O80 2A8 (io), 107 I/O81 2A9 (io), 108 I/O82 2A10 (io), 109 I/O83 2A11 (io), 110 I/O84 2A12 (io), 111 I/O85 2A13 (io), 112 I/O86 2A14 (io), 113 I/O87 2A15 (io), 116 I/O88 2D15 (io), 117 I/O89 2D14 (io), 118 I/O90 2D13 (io), 119 I/O91 2D12 (io), 120 I/O92 2D11 (io), 121 I/O93 2D10 (io), 122 I/O94 2D9 (io), 123 I/O95 2D8 (io), 125 I/O96 2D7 (io), 126 I/O97 2D4 (io), 127 I/O98 2D3 (io), 128 I/O99 2D2 (io), 133 I/O100 3D2 (io), 134 I/O101 3D3 (io), 135 I/O102 3D4 (io), 136 I/O103 3D7 (io), 138 I/O104 3D8 (io), 139 I/O105 3D9 (io), 140 I/O106 3D10 (io), 141 I/O107 3D11 (io), 142 I/O108 3D12 (io), 143 I/O109 3D13 (io), 144 I/O110 3D14 (io), 145 I/O111 3D15 (io), 148 I/O112 3A13 (io), 149 I/O113 3A12 (io), 150 I/O114 3A11 (io), 151 I/O115 3A8 (io), 152 I/O116 3A7 (io), 153 I/O117 3A4 (io), 154 I/O118 3A3 (io), 155 I/O119 3A2 (io), 158 I/O120 3B2 (io), 159 I/O121 3B3 (io), 160 I/O122 3B4 (io), 161 I/O123 3B7 (io), 162 I/O124 3B8 (io), 163 I/O125 3B11 (io), 164 I/O126 3B12 (io), 165 I/O127 3B13 (io), 168 I/O128 4B15 (io), 169 I/O129 4B14 (io), 170 I/O130 4B13 (io), 171 I/O131 4B12 (io), 172 I/O132 4B11 (io), 173 I/O133 4B10 (io), 174 I/O134 4B9 (io), 175 I/O135 4B8 (io), 177 I/O136 4B7 (io), 178 I/O137 4B4 (io), 179 I/O138 4B3 (io), 180 I/O139 4B2 (io), 185 I/O140 4A2 (io), 186 I/O141 4A3 (io), 187 I/O142 4A4 (io), 188 I/O143 4A7 (io), 190 I/O144 4A8 (io), 191 I/O145 4A9 (io), 192 I/O146 4A10 (io), 193 I/O147 4A11 (io), 194 I/O148 4A12 (io), 195 I/O149 4A13 (io), 196 I/O150 4A14 (io), 197 I/O151 4A15 (io), 200 I/O152 0B13 (io), 201 I/O153 0B12 (io), 202 I/O154 0B11 (io), 203 I/O155 0B8 (io), 204 I/O156 0B7 (io), 205 I/O157 0B4 (io), 206 I/O158 0B3 (io), 207 I/O159 0B2 (io)
part B pins: 1 TDI (in), 10 VCC (power), 11 GND (power), 20 GND (power), 25 I0/CLK0 (in), 26 VCC (power), 27 GND (power), 28 I1/CLK1 (in), 33 GND (power), 42 GND (power), 43 VCC (power), 52 TCK (in), 53 GND (power), 62 GND (power), 63 VCC (power), 72 GND (power), 77 VCC (power), 78 GND (power), 79 GND (power), 80 VCC (power), 85 GND (power), 94 VCC (power), 95 GND (power), 104 GND (power), 105 TMS (in), 114 VCC (power), 115 GND (power), 124 GND (power), 129 I2/CLK2 (in), 130 VCC (power), 131 GND (power), 132 I3/CLK3 (in), 137 GND (power), 146 GND (power), 147 VCC (power), 156 TDO (out), 157 GND (power), 166 GND (power), 167 VCC (power), 176 GND (power), 181 VCC (power), 182 GND (power), 183 GND (power), 184 VCC (power), 189 GND (power), 198 VCC (power), 199 GND (power), 208 GND (power)

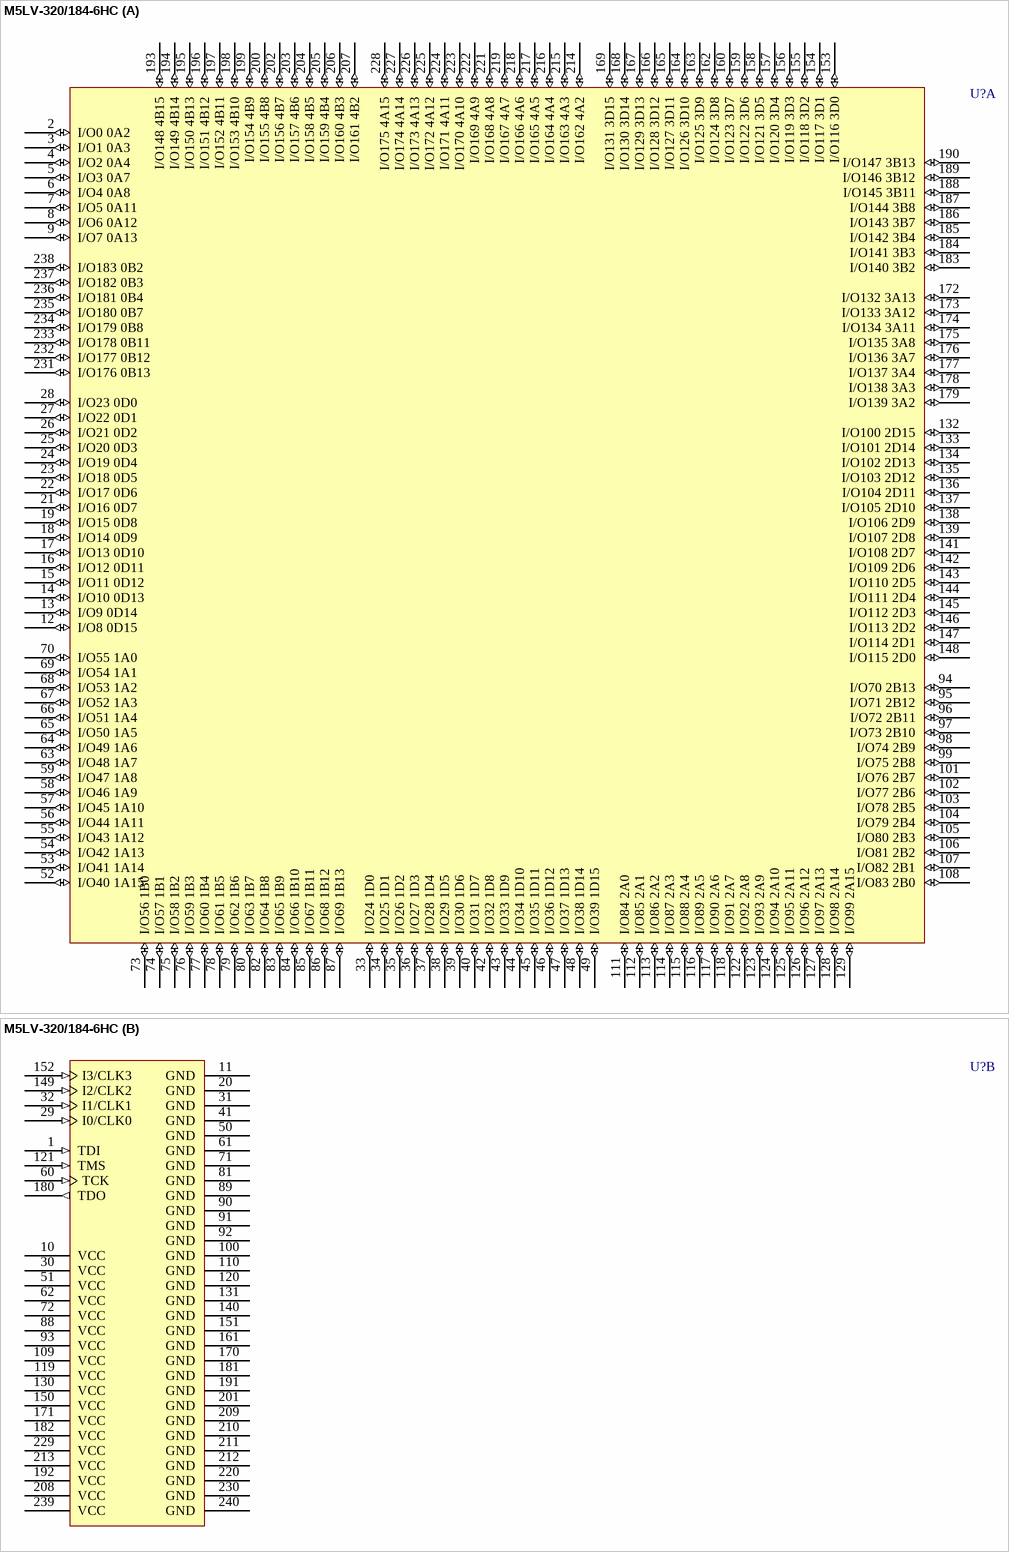
[diagram p213: symbol M5LV-320/184-6HC]

## M5LV-320/184-6HC
designator U?
High-Density and High-I/O Complex PLD; Published: 23-Sep-2002; LatestRevisionDate: 13-Apr-2006; LatestRevisionNote: IPC-7351 Footprint Added.; DatasheetVersion: Sep-2000; PackageVersion: pkg_32, Aug-2005; PackageReference: PQFP240; Publisher: Altium Limited; PackageDescription: 240-Pin Shrink Quad Flat Pack 0.5 mm Pitch; ComponentLink1Description: Manufacturer Link; ComponentLink1URL: http://www.latticesemi.com/products/mature/index.cfm; ComponentLink2Description: Datasheet; ComponentLink2URL: http://www.latticesemi.com/lit/docs/datasheets/cpld/mach5.pdf
footprint PQFP240_N (Shrink QFP, 240-Leads, Body 32x32mm, Pitch 0.5mm, IPC Medium Density)
footprint PQFP240_L (Shrink QFP, 240-Leads, Body 32x32mm, Pitch 0.5mm, IPC High Density)
footprint PQFP240_M (Shrink QFP, 240-Leads, Body 32x32mm, Pitch 0.5mm, IPC Low Density)
3D model M5LV-PQFP240 (240-Pin Shrink Quad Flat Pack 0.5 mm Pitch)
part A pins: 2 I/O0 0A2 (io), 3 I/O1 0A3 (io), 4 I/O2 0A4 (io), 5 I/O3 0A7 (io), 6 I/O4 0A8 (io), 7 I/O5 0A11 (io), 8 I/O6 0A12 (io), 9 I/O7 0A13 (io), 12 I/O8 0D15 (io), 13 I/O9 0D14 (io), 14 I/O10 0D13 (io), 15 I/O11 0D12 (io), 16 I/O12 0D11 (io), 17 I/O13 0D10 (io), 18 I/O14 0D9 (io), 19 I/O15 0D8 (io), 21 I/O16 0D7 (io), 22 I/O17 0D6 (io), 23 I/O18 0D5 (io), 24 I/O19 0D4 (io), 25 I/O20 0D3 (io), 26 I/O21 0D2 (io), 27 I/O22 0D1 (io), 28 I/O23 0D0 (io), 33 I/O24 1D0 (io), 34 I/O25 1D1 (io), 35 I/O26 1D2 (io), 36 I/O27 1D3 (io), 37 I/O28 1D4 (io), 38 I/O29 1D5 (io), 39 I/O30 1D6 (io), 40 I/O31 1D7 (io), 42 I/O32 1D8 (io), 43 I/O33 1D9 (io), 44 I/O34 1D10 (io), 45 I/O35 1D11 (io), 46 I/O36 1D12 (io), 47 I/O37 1D13 (io), 48 I/O38 1D14 (io), 49 I/O39 1D15 (io), 52 I/O40 1A15 (io), 53 I/O41 1A14 (io), 54 I/O42 1A13 (io), 55 I/O43 1A12 (io), 56 I/O44 1A11 (io), 57 I/O45 1A10 (io), 58 I/O46 1A9 (io), 59 I/O47 1A8 (io), 63 I/O48 1A7 (io), 64 I/O49 1A6 (io), 65 I/O50 1A5 (io), 66 I/O51 1A4 (io), 67 I/O52 1A3 (io), 68 I/O53 1A2 (io), 69 I/O54 1A1 (io), 70 I/O55 1A0 (io), 73 I/O56 1B0 (io), 74 I/O57 1B1 (io), 75 I/O58 1B2 (io), 76 I/O59 1B3 (io), 77 I/O60 1B4 (io), 78 I/O61 1B5 (io), 79 I/O62 1B6 (io), 80 I/O63 1B7 (io), 82 I/O64 1B8 (io), 83 I/O65 1B9 (io), 84 I/O66 1B10 (io), 85 I/O67 1B11 (io), 86 I/O68 1B12 (io), 87 I/O69 1B13 (io), 94 I/O70 2B13 (io), 95 I/O71 2B12 (io), 96 I/O72 2B11 (io), 97 I/O73 2B10 (io), 98 I/O74 2B9 (io), 99 I/O75 2B8 (io), 101 I/O76 2B7 (io), 102 I/O77 2B6 (io), 103 I/O78 2B5 (io), 104 I/O79 2B4 (io), 105 I/O80 2B3 (io), 106 I/O81 2B2 (io), 107 I/O82 2B1 (io), 108 I/O83 2B0 (io), 111 I/O84 2A0 (io), 112 I/O85 2A1 (io), 113 I/O86 2A2 (io), 114 I/O87 2A3 (io), 115 I/O88 2A4 (io), 116 I/O89 2A5 (io), 117 I/O90 2A6 (io), 118 I/O91 2A7 (io), 122 I/O92 2A8 (io), 123 I/O93 2A9 (io), 124 I/O94 2A10 (io), 125 I/O95 2A11 (io), 126 I/O96 2A12 (io), 127 I/O97 2A13 (io), 128 I/O98 2A14 (io), 129 I/O99 2A15 (io), 132 I/O100 2D15 (io), 133 I/O101 2D14 (io), 134 I/O102 2D13 (io), 135 I/O103 2D12 (io), 136 I/O104 2D11 (io), 137 I/O105 2D10 (io), 138 I/O106 2D9 (io), 139 I/O107 2D8 (io), 141 I/O108 2D7 (io), 142 I/O109 2D6 (io), 143 I/O110 2D5 (io), 144 I/O111 2D4 (io), 145 I/O112 2D3 (io), 146 I/O113 2D2 (io), 147 I/O114 2D1 (io), 148 I/O115 2D0 (io), 153 I/O116 3D0 (io), 154 I/O117 3D1 (io), 155 I/O118 3D2 (io), 156 I/O119 3D3 (io), 157 I/O120 3D4 (io), 158 I/O121 3D5 (io), 159 I/O122 3D6 (io), 160 I/O123 3D7 (io), 162 I/O124 3D8 (io), 163 I/O125 3D9 (io), 164 I/O126 3D10 (io), 165 I/O127 3D11 (io), 166 I/O128 3D12 (io), 167 I/O129 3D13 (io), 168 I/O130 3D14 (io), 169 I/O131 3D15 (io), 172 I/O132 3A13 (io), 173 I/O133 3A12 (io), 174 I/O134 3A11 (io), 175 I/O135 3A8 (io), 176 I/O136 3A7 (io), 177 I/O137 3A4 (io), 178 I/O138 3A3 (io), 179 I/O139 3A2 (io), 183 I/O140 3B2 (io), 184 I/O141 3B3 (io), 185 I/O142 3B4 (io), 186 I/O143 3B7 (io), 187 I/O144 3B8 (io), 188 I/O145 3B11 (io), 189 I/O146 3B12 (io), 190 I/O147 3B13 (io), 193 I/O148 4B15 (io), 194 I/O149 4B14 (io), 195 I/O150 4B13 (io), 196 I/O151 4B12 (io), 197 I/O152 4B11 (io), 198 I/O153 4B10 (io), 199 I/O154 4B9 (io), 200 I/O155 4B8 (io), 202 I/O156 4B7 (io), 203 I/O157 4B6 (io), 204 I/O158 4B5 (io), 205 I/O159 4B4 (io), 206 I/O160 4B3 (io), 207 I/O161 4B2 (io), 214 I/O162 4A2 (io), 215 I/O163 4A3 (io), 216 I/O164 4A4 (io), 217 I/O165 4A5 (io), 218 I/O166 4A6 (io), 219 I/O167 4A7 (io), 221 I/O168 4A8 (io), 222 I/O169 4A9 (io), 223 I/O170 4A10 (io), 224 I/O171 4A11 (io), 225 I/O172 4A12 (io), 226 I/O173 4A13 (io), 227 I/O174 4A14 (io), 228 I/O175 4A15 (io), 231 I/O176 0B13 (io), 232 I/O177 0B12 (io), 233 I/O178 0B11 (io), 234 I/O179 0B8 (io), 235 I/O180 0B7 (io), 236 I/O181 0B4 (io), 237 I/O182 0B3 (io), 238 I/O183 0B2 (io)
part B pins: 1 TDI (in), 10 VCC (power), 11 GND (power), 20 GND (power), 29 I0/CLK0 (in), 30 VCC (power), 31 GND (power), 32 I1/CLK1 (in), 41 GND (power), 50 GND (power), 51 VCC (power), 60 TCK (in), 61 GND (power), 62 VCC (power), 71 GND (power), 72 VCC (power), 81 GND (power), 88 VCC (power), 89 GND (power), 90 GND (power), 91 GND (power), 92 GND (power), 93 VCC (power), 100 GND (power), 109 VCC (power), 110 GND (power), 119 VCC (power), 120 GND (power), 121 TMS (in), 130 VCC (power), 131 GND (power), 140 GND (power), 149 I2/CLK2 (in), 150 VCC (power), 151 GND (power), 152 I3/CLK3 (in), 161 GND (power), 170 GND (power), 171 VCC (power), 180 TDO (out), 181 GND (power), 182 VCC (power), 191 GND (power), 192 VCC (power), 201 GND (power), 208 VCC (power), 209 GND (power), 210 GND (power), 211 GND (power), 212 GND (power), 213 VCC (power), 220 GND (power), 229 VCC (power), 230 GND (power), 239 VCC (power), 240 GND (power)

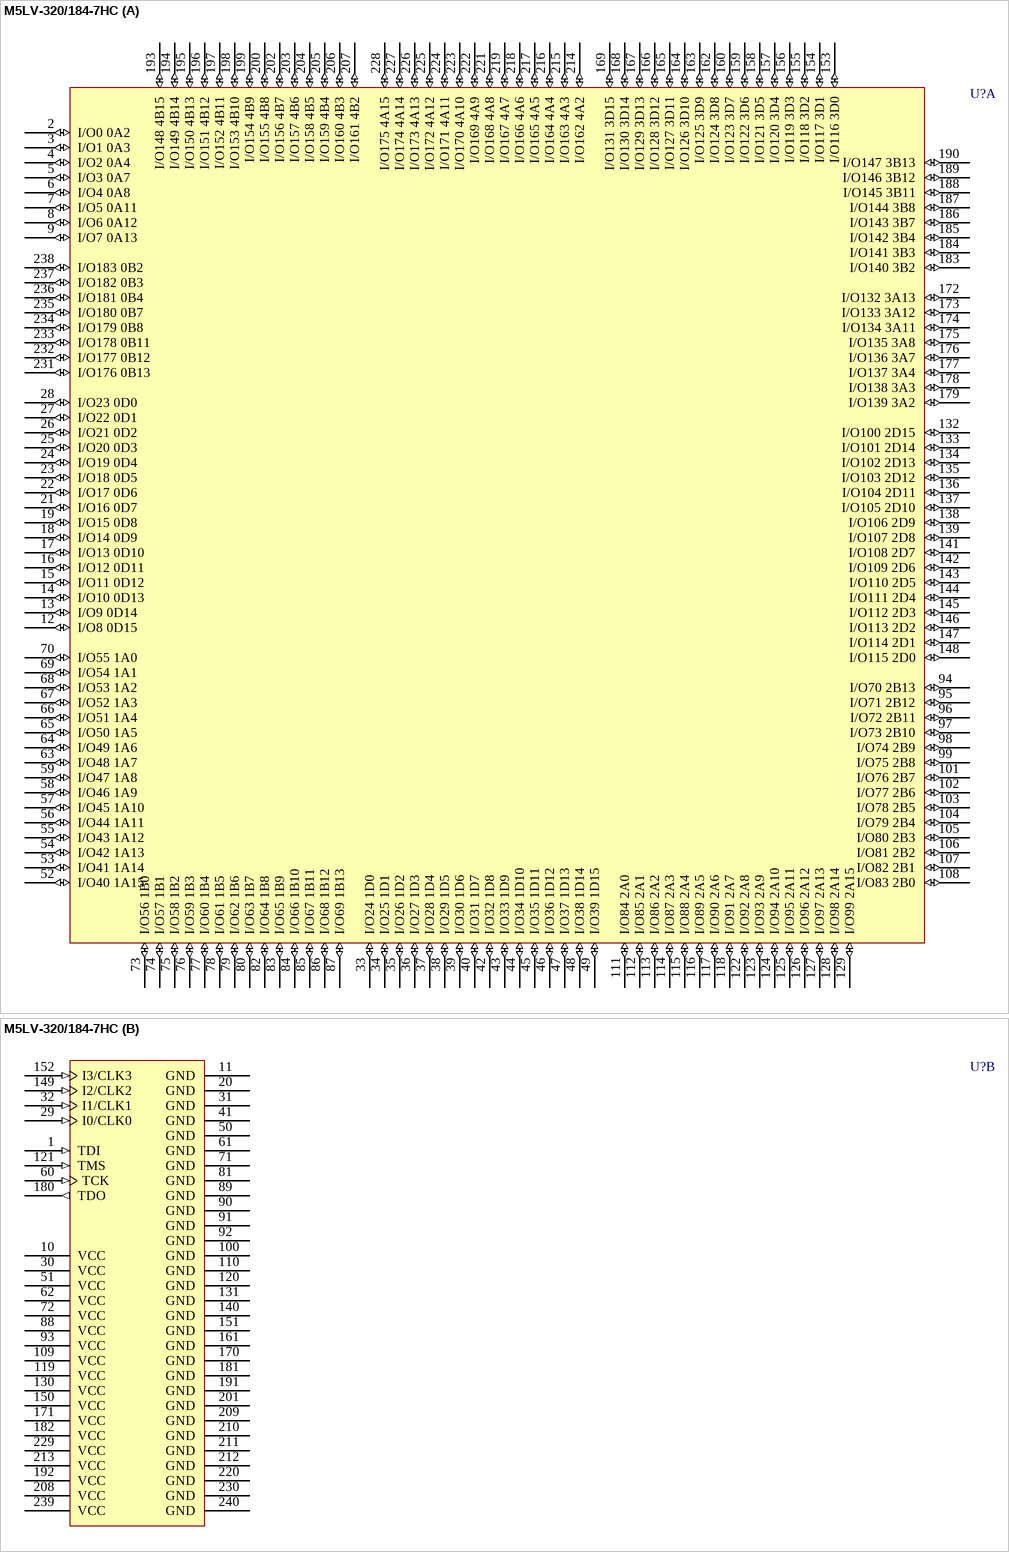
[diagram p214: symbol M5LV-320/184-7HC]

## M5LV-320/184-7HC
designator U?
High-Density and High-I/O Complex PLD; Published: 23-Sep-2002; LatestRevisionDate: 13-Apr-2006; LatestRevisionNote: IPC-7351 Footprint Added.; DatasheetVersion: Sep-2000; PackageVersion: pkg_32, Aug-2005; PackageReference: PQFP240; Publisher: Altium Limited; PackageDescription: 240-Pin Shrink Quad Flat Pack 0.5 mm Pitch; ComponentLink1Description: Manufacturer Link; ComponentLink1URL: http://www.latticesemi.com/products/mature/index.cfm; ComponentLink2Description: Datasheet; ComponentLink2URL: http://www.latticesemi.com/lit/docs/datasheets/cpld/mach5.pdf
footprint PQFP240_N (Shrink QFP, 240-Leads, Body 32x32mm, Pitch 0.5mm, IPC Medium Density)
footprint PQFP240_L (Shrink QFP, 240-Leads, Body 32x32mm, Pitch 0.5mm, IPC High Density)
footprint PQFP240_M (Shrink QFP, 240-Leads, Body 32x32mm, Pitch 0.5mm, IPC Low Density)
3D model M5LV-PQFP240 (240-Pin Shrink Quad Flat Pack 0.5 mm Pitch)
part A pins: 2 I/O0 0A2 (io), 3 I/O1 0A3 (io), 4 I/O2 0A4 (io), 5 I/O3 0A7 (io), 6 I/O4 0A8 (io), 7 I/O5 0A11 (io), 8 I/O6 0A12 (io), 9 I/O7 0A13 (io), 12 I/O8 0D15 (io), 13 I/O9 0D14 (io), 14 I/O10 0D13 (io), 15 I/O11 0D12 (io), 16 I/O12 0D11 (io), 17 I/O13 0D10 (io), 18 I/O14 0D9 (io), 19 I/O15 0D8 (io), 21 I/O16 0D7 (io), 22 I/O17 0D6 (io), 23 I/O18 0D5 (io), 24 I/O19 0D4 (io), 25 I/O20 0D3 (io), 26 I/O21 0D2 (io), 27 I/O22 0D1 (io), 28 I/O23 0D0 (io), 33 I/O24 1D0 (io), 34 I/O25 1D1 (io), 35 I/O26 1D2 (io), 36 I/O27 1D3 (io), 37 I/O28 1D4 (io), 38 I/O29 1D5 (io), 39 I/O30 1D6 (io), 40 I/O31 1D7 (io), 42 I/O32 1D8 (io), 43 I/O33 1D9 (io), 44 I/O34 1D10 (io), 45 I/O35 1D11 (io), 46 I/O36 1D12 (io), 47 I/O37 1D13 (io), 48 I/O38 1D14 (io), 49 I/O39 1D15 (io), 52 I/O40 1A15 (io), 53 I/O41 1A14 (io), 54 I/O42 1A13 (io), 55 I/O43 1A12 (io), 56 I/O44 1A11 (io), 57 I/O45 1A10 (io), 58 I/O46 1A9 (io), 59 I/O47 1A8 (io), 63 I/O48 1A7 (io), 64 I/O49 1A6 (io), 65 I/O50 1A5 (io), 66 I/O51 1A4 (io), 67 I/O52 1A3 (io), 68 I/O53 1A2 (io), 69 I/O54 1A1 (io), 70 I/O55 1A0 (io), 73 I/O56 1B0 (io), 74 I/O57 1B1 (io), 75 I/O58 1B2 (io), 76 I/O59 1B3 (io), 77 I/O60 1B4 (io), 78 I/O61 1B5 (io), 79 I/O62 1B6 (io), 80 I/O63 1B7 (io), 82 I/O64 1B8 (io), 83 I/O65 1B9 (io), 84 I/O66 1B10 (io), 85 I/O67 1B11 (io), 86 I/O68 1B12 (io), 87 I/O69 1B13 (io), 94 I/O70 2B13 (io), 95 I/O71 2B12 (io), 96 I/O72 2B11 (io), 97 I/O73 2B10 (io), 98 I/O74 2B9 (io), 99 I/O75 2B8 (io), 101 I/O76 2B7 (io), 102 I/O77 2B6 (io), 103 I/O78 2B5 (io), 104 I/O79 2B4 (io), 105 I/O80 2B3 (io), 106 I/O81 2B2 (io), 107 I/O82 2B1 (io), 108 I/O83 2B0 (io), 111 I/O84 2A0 (io), 112 I/O85 2A1 (io), 113 I/O86 2A2 (io), 114 I/O87 2A3 (io), 115 I/O88 2A4 (io), 116 I/O89 2A5 (io), 117 I/O90 2A6 (io), 118 I/O91 2A7 (io), 122 I/O92 2A8 (io), 123 I/O93 2A9 (io), 124 I/O94 2A10 (io), 125 I/O95 2A11 (io), 126 I/O96 2A12 (io), 127 I/O97 2A13 (io), 128 I/O98 2A14 (io), 129 I/O99 2A15 (io), 132 I/O100 2D15 (io), 133 I/O101 2D14 (io), 134 I/O102 2D13 (io), 135 I/O103 2D12 (io), 136 I/O104 2D11 (io), 137 I/O105 2D10 (io), 138 I/O106 2D9 (io), 139 I/O107 2D8 (io), 141 I/O108 2D7 (io), 142 I/O109 2D6 (io), 143 I/O110 2D5 (io), 144 I/O111 2D4 (io), 145 I/O112 2D3 (io), 146 I/O113 2D2 (io), 147 I/O114 2D1 (io), 148 I/O115 2D0 (io), 153 I/O116 3D0 (io), 154 I/O117 3D1 (io), 155 I/O118 3D2 (io), 156 I/O119 3D3 (io), 157 I/O120 3D4 (io), 158 I/O121 3D5 (io), 159 I/O122 3D6 (io), 160 I/O123 3D7 (io), 162 I/O124 3D8 (io), 163 I/O125 3D9 (io), 164 I/O126 3D10 (io), 165 I/O127 3D11 (io), 166 I/O128 3D12 (io), 167 I/O129 3D13 (io), 168 I/O130 3D14 (io), 169 I/O131 3D15 (io), 172 I/O132 3A13 (io), 173 I/O133 3A12 (io), 174 I/O134 3A11 (io), 175 I/O135 3A8 (io), 176 I/O136 3A7 (io), 177 I/O137 3A4 (io), 178 I/O138 3A3 (io), 179 I/O139 3A2 (io), 183 I/O140 3B2 (io), 184 I/O141 3B3 (io), 185 I/O142 3B4 (io), 186 I/O143 3B7 (io), 187 I/O144 3B8 (io), 188 I/O145 3B11 (io), 189 I/O146 3B12 (io), 190 I/O147 3B13 (io), 193 I/O148 4B15 (io), 194 I/O149 4B14 (io), 195 I/O150 4B13 (io), 196 I/O151 4B12 (io), 197 I/O152 4B11 (io), 198 I/O153 4B10 (io), 199 I/O154 4B9 (io), 200 I/O155 4B8 (io), 202 I/O156 4B7 (io), 203 I/O157 4B6 (io), 204 I/O158 4B5 (io), 205 I/O159 4B4 (io), 206 I/O160 4B3 (io), 207 I/O161 4B2 (io), 214 I/O162 4A2 (io), 215 I/O163 4A3 (io), 216 I/O164 4A4 (io), 217 I/O165 4A5 (io), 218 I/O166 4A6 (io), 219 I/O167 4A7 (io), 221 I/O168 4A8 (io), 222 I/O169 4A9 (io), 223 I/O170 4A10 (io), 224 I/O171 4A11 (io), 225 I/O172 4A12 (io), 226 I/O173 4A13 (io), 227 I/O174 4A14 (io), 228 I/O175 4A15 (io), 231 I/O176 0B13 (io), 232 I/O177 0B12 (io), 233 I/O178 0B11 (io), 234 I/O179 0B8 (io), 235 I/O180 0B7 (io), 236 I/O181 0B4 (io), 237 I/O182 0B3 (io), 238 I/O183 0B2 (io)
part B pins: 1 TDI (in), 10 VCC (power), 11 GND (power), 20 GND (power), 29 I0/CLK0 (in), 30 VCC (power), 31 GND (power), 32 I1/CLK1 (in), 41 GND (power), 50 GND (power), 51 VCC (power), 60 TCK (in), 61 GND (power), 62 VCC (power), 71 GND (power), 72 VCC (power), 81 GND (power), 88 VCC (power), 89 GND (power), 90 GND (power), 91 GND (power), 92 GND (power), 93 VCC (power), 100 GND (power), 109 VCC (power), 110 GND (power), 119 VCC (power), 120 GND (power), 121 TMS (in), 130 VCC (power), 131 GND (power), 140 GND (power), 149 I2/CLK2 (in), 150 VCC (power), 151 GND (power), 152 I3/CLK3 (in), 161 GND (power), 170 GND (power), 171 VCC (power), 180 TDO (out), 181 GND (power), 182 VCC (power), 191 GND (power), 192 VCC (power), 201 GND (power), 208 VCC (power), 209 GND (power), 210 GND (power), 211 GND (power), 212 GND (power), 213 VCC (power), 220 GND (power), 229 VCC (power), 230 GND (power), 239 VCC (power), 240 GND (power)

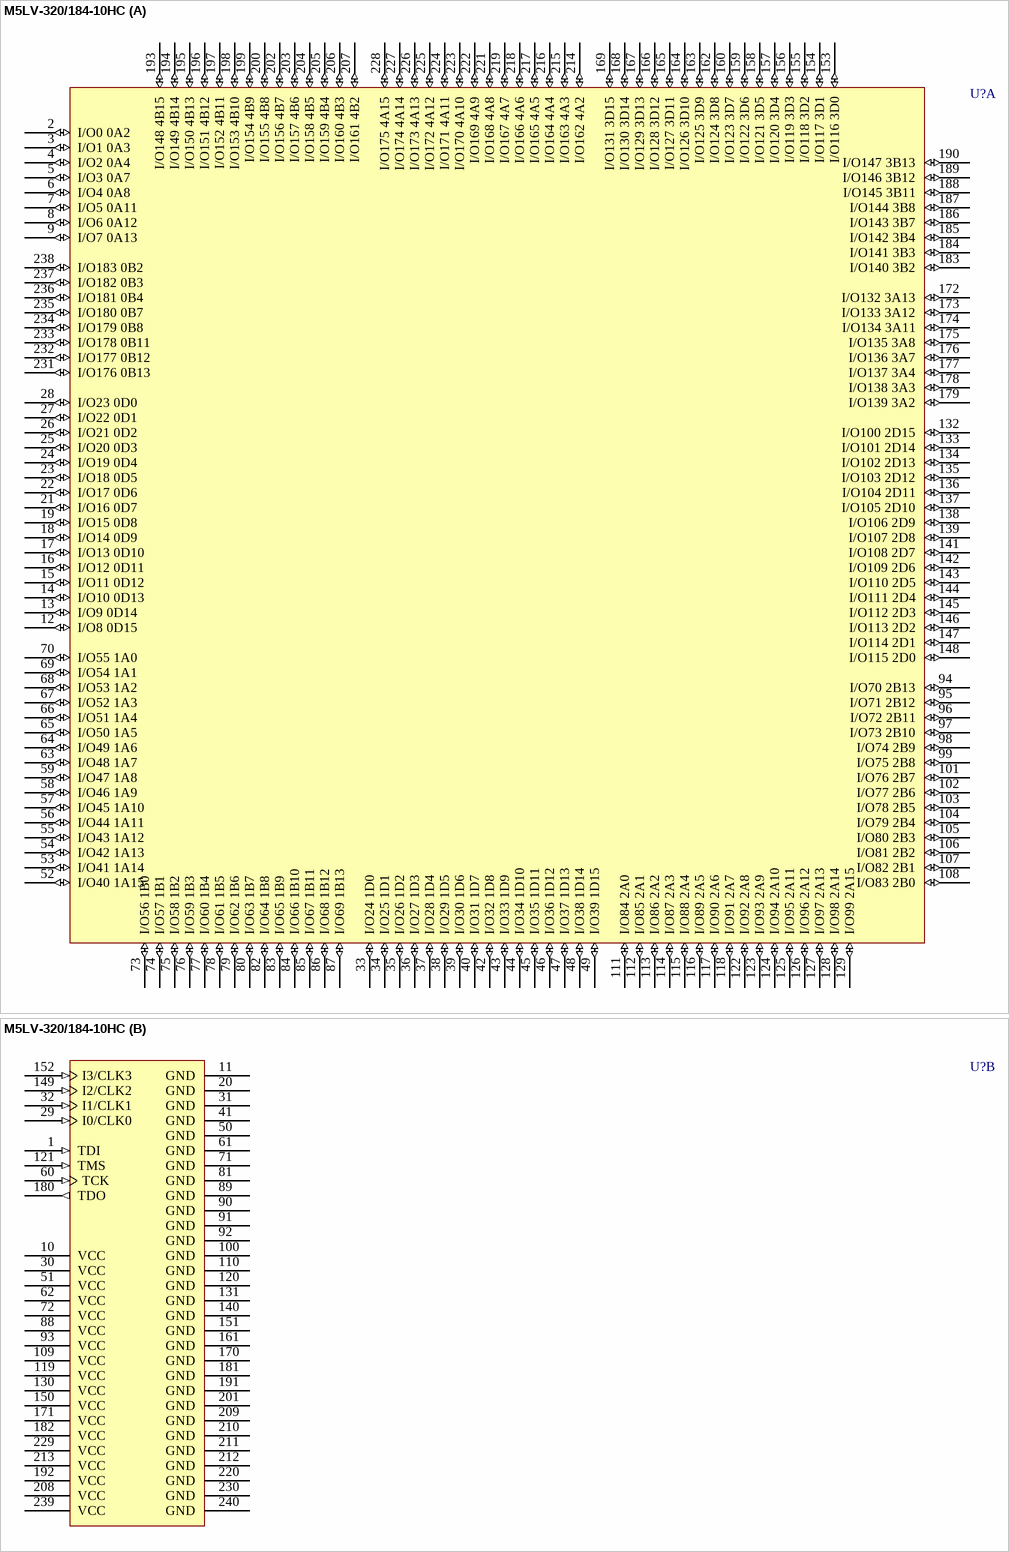
[diagram p215: symbol M5LV-320/184-10HC]